# Altium schematic symbol library PW Components.SchLib: 317 symbols (part 1 of 3)
Pins are listed as number, name and electrical type; pins without a type are passive.

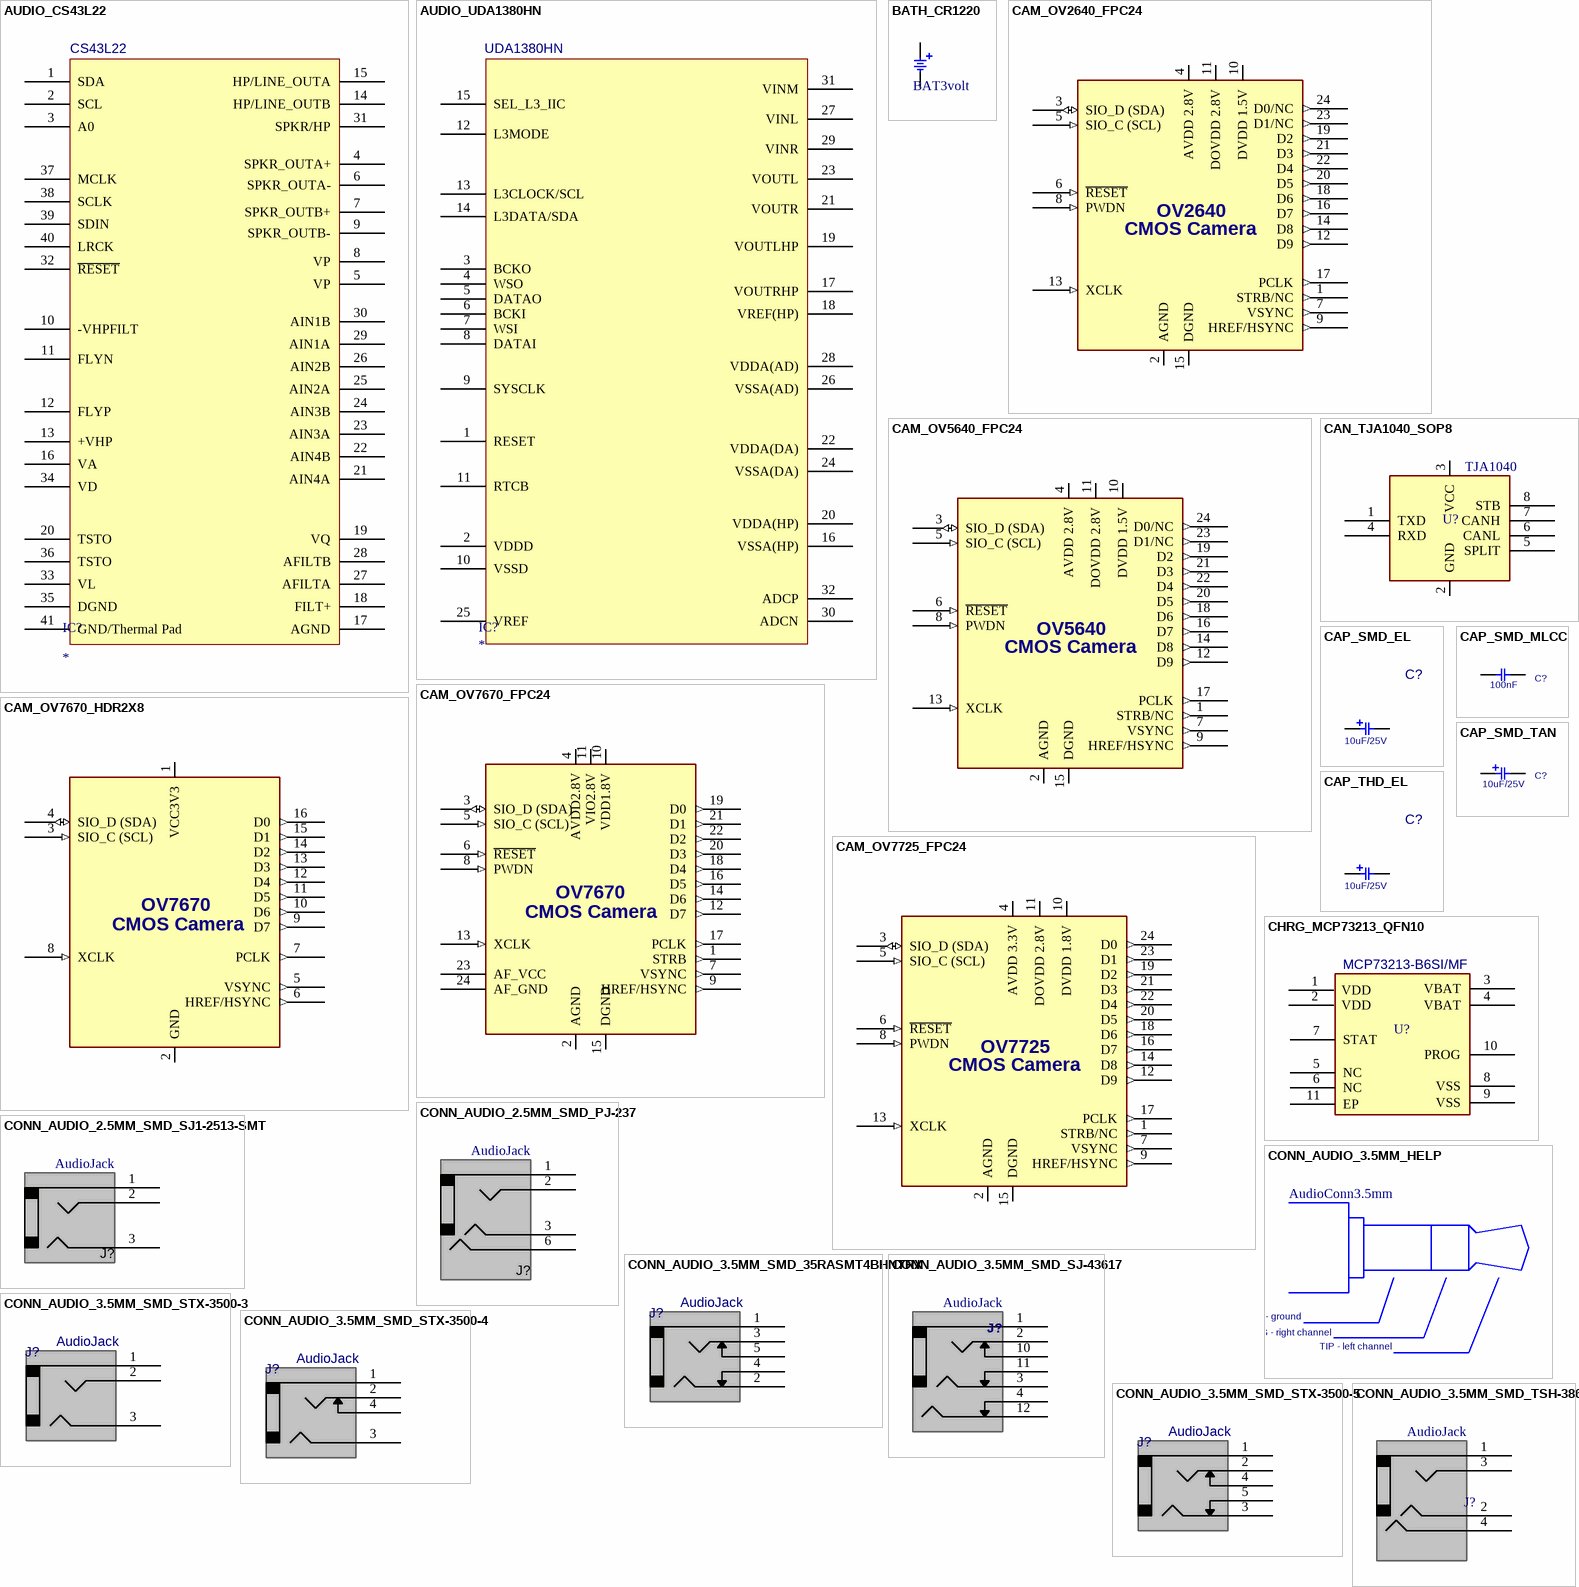
[diagram p0: symbols AUDIO_CS43L22 to CONN_AUDIO_3.5MM_SMD_TSH-3864D]

## AUDIO_CS43L22
designator IC?
Low Power Stereo Digital/Analog Converter (DAC)
footprint QFN40 6x6mm (QFN, 40-Leads, Body 5.00x5.00mm, Pitch 0.40mm, Thermal Pad 3.33x3.33mm, IPC Medium Density)
pins: 1 SDA (power), 2 SCL (power), 3 A0 (power), 4 SPKR_OUTA+ (power), 5 VP (power), 6 SPKR_OUTA- (power), 7 SPKR_OUTB+ (power), 8 VP (power), 9 SPKR_OUTB- (power), 10 -VHPFILT (power), 11 FLYN (power), 12 FLYP (power), 13 +VHP (power), 14 HP/LINE_OUTB (power), 15 HP/LINE_OUTA (power), 16 VA (power), 17 AGND (power), 18 FILT+ (power), 19 VQ (power), 20 TSTO (power), 21 AIN4A (power), 22 AIN4B (power), 23 AIN3A (power), 24 AIN3B (power), 25 AIN2A (power), 26 AIN2B (power), 27 AFILTA (power), 28 AFILTB (power), 29 AIN1A (power), 30 AIN1B (power), 31 SPKR/HP (power), 32 ~{RESET} (power), 33 VL (power), 34 VD (power), 35 DGND (power), 36 TSTO (power), 37 MCLK (power), 38 SCLK (power), 39 SDIN (power), 40 LRCK (power), 41 GND/Thermal Pad (power)
text: CS43L22

## AUDIO_UDA1380HN
designator IC?
Stereo Audio Coder/Decoder
footprint NXP HVQFN-33 5x5mm (QFN, 32-Leads, Body 5.00x5.00mm, Pitch 0.50mm, Thermal Pad 3.75x3.75mm, IPC Medium Density)
pins: 1 RESET, 2 VDDD, 3 BCKO, 4 WSO, 5 DATAO, 6 BCKI, 7 WSI, 8 DATAI, 9 SYSCLK, 10 VSSD, 11 RTCB, 12 L3MODE, 13 L3CLOCK/SCL, 14 L3DATA/SDA, 15 SEL_L3_IIC, 16 VSSA(HP), 17 VOUTRHP, 18 VREF(HP), 19 VOUTLHP, 20 VDDA(HP), 21 VOUTR, 22 VDDA(DA), 23 VOUTL, 24 VSSA(DA), 25 VREF, 26 VSSA(AD), 27 VINL, 28 VDDA(AD), 29 VINR, 30 ADCN, 31 VINM, 32 ADCP
text: UDA1380HN

## BATH_CR1220
designator BT?, comment BAT3volt
BATTERY HOLDER, CR1220; VALUE: BAT3volt; MANF_P#: -
footprint BTH1220 (COIN CELL BATTERY HOLDER 1220 12mm)
pins: 1, 2

## CAM_OV2640_FPC24
designator P?, comment OV2640_FPC24
OV2640 Color CMOS UXGA (1632 x 1232) Concept Camera Module; Value: COLOR VGA Camera
footprint FPC50_24 (FPC, FH12 Series; 24 Position; 0.5mm, Bottom Contact, FH12F-24S-0.5SH)
footprint FPC50_24T (Connector; FH12 Series; 24 Position; 0.5mm, Top Contact, FH12A-24S-0.5SH(55))
footprint FPC50_24V (Connector; FH12 Series; 24 Position; 0.5mm, Vertical, FH12-24S-0.5SV)
pins: 1 STRB/NC (out), 2 AGND (power), 3 SIO_D (SDA) (io), 4 AVDD 2.8V (power), 5 SIO_C (SCL) (in), 6 ~{RESET} (in), 7 VSYNC (out), 8 PWDN (in), 9 HREF/HSYNC (out), 10 DVDD 1.5V (power), 11 DOVDD 2.8V (power), 12 D9 (out), 13 XCLK (in), 14 D8 (out), 15 DGND (power), 16 D7 (out), 17 PCLK (out), 18 D6 (out), 19 D2 (out), 20 D5 (out), 21 D3 (out), 22 D4 (out), 23 D1/NC (out), 24 D0/NC (out)
1 alternate drawing of the same symbol
text: OV2640; CMOS Camera

## CAM_OV5640_FPC24
designator P?, comment OV5640_FPC24
OV5640 Color CMOS QSXGA (2560 x 2048)  Concept Camera Module; Value: COLOR VGA Camera
footprint FPC50_24 (FPC, FH12 Series; 24 Position; 0.5mm, Bottom Contact, FH12F-24S-0.5SH)
footprint FPC50_24T (Connector; FH12 Series; 24 Position; 0.5mm, Top Contact, FH12A-24S-0.5SH(55))
footprint FPC50_24V (Connector; FH12 Series; 24 Position; 0.5mm, Vertical, FH12-24S-0.5SV)
pins: 1 STRB/NC (out), 2 AGND (power), 3 SIO_D (SDA) (io), 4 AVDD 2.8V (power), 5 SIO_C (SCL) (in), 6 ~{RESET} (in), 7 VSYNC (out), 8 PWDN (in), 9 HREF/HSYNC (out), 10 DVDD 1.5V (power), 11 DOVDD 2.8V (power), 12 D9 (out), 13 XCLK (in), 14 D8 (out), 15 DGND (power), 16 D7 (out), 17 PCLK (out), 18 D6 (out), 19 D2 (out), 20 D5 (out), 21 D3 (out), 22 D4 (out), 23 D1/NC (out), 24 D0/NC (out)
1 alternate drawing of the same symbol
text: OV5640; CMOS Camera

## CAM_OV7670_FPC24
designator P?, comment OV7670_FPC24
OV7670 Color CMOS VGA (640 x 480)  Concept Camera Module; Value: COLOR VGA Camera
footprint FPC50_24 (FPC, FH12 Series; 24 Position; 0.5mm, Bottom Contact, FH12F-24S-0.5SH)
footprint FPC50_24T (Connector; FH12 Series; 24 Position; 0.5mm, Top Contact, FH12A-24S-0.5SH(55))
footprint FPC50_24V (Connector; FH12 Series; 24 Position; 0.5mm, Vertical, FH12-24S-0.5SV)
pins: 1 STRB (out), 2 AGND (power), 3 SIO_D (SDA) (io), 4 AVDD2.8V (power), 5 SIO_C (SCL) (in), 6 ~{RESET} (in), 7 VSYNC (out), 8 PWDN (in), 9 HREF/HSYNC (out), 10 VDD1.8V (power), 11 VIO2.8V (power), 12 D7 (out), 13 XCLK (in), 14 D6 (out), 15 DGND (power), 16 D5 (out), 17 PCLK (out), 18 D4 (out), 19 D0 (out), 20 D3 (out), 21 D1 (out), 22 D2 (out), 23 AF_VCC, 24 AF_GND
1 alternate drawing of the same symbol
text: OV7670; CMOS Camera

## CAM_OV7670_HDR2X8
designator U?, comment OV7670_HDR2X8  (value not drawn)
Camera Module, Color CMOS VGA (640 x 480)  Concept; MANF_P#: OV7670_HDR2X8; Value: OV7670_HDR2X8
footprint HDR_F_2X8 (Connector; Header; 8x2 Position)
pins: 1 VCC3V3 (power), 2 GND (power), 3 SIO_C (SCL) (in), 4 SIO_D (SDA) (io), 5 VSYNC (out), 6 HREF/HSYNC (out), 7 PCLK (out), 8 XCLK (in), 9 D7 (out), 10 D6 (out), 11 D5 (out), 12 D4 (out), 13 D3 (out), 14 D2 (out), 15 D1 (out), 16 D0 (out)
1 alternate drawing of the same symbol
text: OV7670; CMOS Camera

## CAM_OV7725_FPC24
designator P?, comment OV7725_FPC24
OV7725 Color CMOS VGA (640 x 480)  Concept Camera Module; Value: COLOR VGA Camera
footprint FPC50_24 (FPC, FH12 Series; 24 Position; 0.5mm, Bottom Contact, FH12F-24S-0.5SH)
footprint FPC50_24T (Connector; FH12 Series; 24 Position; 0.5mm, Top Contact, FH12A-24S-0.5SH(55))
footprint FPC50_24V (Connector; FH12 Series; 24 Position; 0.5mm, Vertical, FH12-24S-0.5SV)
pins: 1 STRB/NC (out), 2 AGND (power), 3 SIO_D (SDA) (io), 4 AVDD 3.3V (power), 5 SIO_C (SCL) (in), 6 ~{RESET} (in), 7 VSYNC (out), 8 PWDN (in), 9 HREF/HSYNC (out), 10 DVDD 1.8V (power), 11 DOVDD 2.8V (power), 12 D9 (out), 13 XCLK (in), 14 D8 (out), 15 DGND (power), 16 D7 (out), 17 PCLK (out), 18 D6 (out), 19 D2 (out), 20 D5 (out), 21 D3 (out), 22 D4 (out), 23 D1 (out), 24 D0 (out)
1 alternate drawing of the same symbol
text: OV7725; CMOS Camera

## CAN_TJA1040_SOP8
designator U?, comment TJA1040
CAN, phy, High speed, 5V (VDD); MANF: NXP; MANF_P#: TJA1040T; PRICE: 4000toman@PAYA; PARAM2: 5V (VDD); PARAM: PARAM; VALUE: TJA1040
footprint SO_8
pins: 1 TXD, 2 GND, 3 VCC, 4 RXD, 5 SPLIT, 6 CANL, 7 CANH, 8 STB

## CAP_SMD_EL
designator C?, comment 10uF/25V
CAP, THD, ELEC; MANF_P#: MANF_PART#; PARAM2: 20%; DESC: DESCRIPTION; DIST#: MOUSER; PARAM: 25V; PRICE: 10= 5$; MANF: MANF; ASSEMBLY: ASSEMBLY; VALUE: 10uF/25V
footprint C_EL_8 (Electrolytic Cap, Size E, Size F, 8.3X10)
footprint C_EL_4 (Electrolytic Cap, D: 4.3mm, Size B)
footprint C_EL_5 (Electrolytic Cap, D: 5.0mm, Size C)
footprint C_EL_6 (Electrolytic Cap, D: 6.3mm L: 7.7mm, Size D)
footprint C_EL_10 (Electrolytic Cap, 10.3x10.3mm)
footprint C_EL_12 (Electrolytic Cap, 12.5x13mm)
pins: 1, 2

## CAP_SMD_MLCC
designator C?, comment 100nF
CAP, SMD, MLCC; PARAM: 50V; DESC: CAP, MLCC, 1nF, 50V, C0G, 10%, 0402; MANF_P#: MANF_PART#; MANF: Murata; PARAM2: C0G, 10%; PRICE: 100= 1$; ASSEMBLY: ASSEMBLY; VALUE: 100nF
footprint C0402 (CHIP Capacitor, 1.0X0.5mm, 0402)
footprint C0603 (CHIP Capacitor, 1.6X0.8mm, 0603)
footprint C0805 (CHIP Capacitor, 2.0X1.3mm, 0805)
footprint C1206 (CHIP Capacitor, 3.2X1.6mm, 1206)
footprint C1210 (CHIP Capacitor, 3.2X2.5mm, 1210, 3225)
footprint C0508 (CHIP Capacitor, 1.3X2.0mm, 0508)
footprint C1020 (CHIP Capacitor, 2.50x5.00mm)
footprint C1808 (CHIP Capacitor, 4.6X2.0mm, 1808, 1806, 4620, 4520)
footprint C1812 (Chip Capacitor, 4.5x3.2mm, 1612, 1812, 4532)
footprint C1825 (Chip Capacitor, 4.5x6.4mm, 1825, 4564)
footprint C2225 (Chip Capacitor, 5.6x6.4mm, 2225, 5664)
footprint C2512 (Chip Capacitor, 6.4x3.2mm, 2512, 6432)
pins: 1, 2

## CAP_SMD_TAN
designator C?, comment 10uF/25V
CAP, SMD, TAN; PARAM: 25V; VALUE: 10uF/25V
footprint C_TN_2012 (CAPACITOR, TAN N, TAN P, TAN R, 0805P, 2X1.3mm)
footprint C_TN_3216 (CAPACITOR, TAN A, 1206P, 3.2x1.6mm)
footprint C_TN_3528 (CAPACITOR, TAN B, TAN H, TAN T, TAN M, 3528P, 1210P, 3.5X2.8mm)
footprint C_TN_6032 (CAPACITOR, TAN C, TAN F, TAN U, TAN L, 6032P, 6.0X3.2mm)
footprint C_TN_7343 (CAPACITOR, TAN D, TAN E, TAN Y, TAN X, 7343P, 7.3X4.3mm)
footprint C_TN_7361 (CAPACITOR, TAN V, 2924, 7361, 7.3X6.1mm)
pins: 1, 2

## CAP_THD_EL
designator C?, comment 10uF/25V
CAP, THD, ELEC; MANF_P#: MANF_PART#; PARAM2: 20%; DESC: DESCRIPTION; DIST#: MOUSER; PARAM: 25V; PRICE: 10= 5$; MANF: MANF; ASSEMBLY: ASSEMBLY; VALUE: 10uF/25V
footprint C_EL_8X12 (Cap Elec, D8.0X12.0H pitch: 3.5mm, RB.14/.26, RB.15/.32)
footprint C_EL_4X7 (Cap Elec, D4.0X7.0H pitch: 1.5mm)
footprint C_EL_5X7 (Cap Elec, D5.0X7.0H pitch: 2mm)
footprint C_EL_5X11 (Cap Elec, D5.0X11.0H pitch: 2mm)
footprint C_EL_6X11 (Cap Elec, D6.3X11.0H pitch: 2.5mm)
footprint C_EL_8X12 (Cap Elec, D8.0X12.0H pitch: 3.5mm, RB.14/.26, RB.15/.32)
footprint C_EL_8X12R (Cap Elec, D8.0X12.0H pitch: 3.5mm, RIGHT ANGLE)
footprint C_EL_10X20 (Cap Elec, D10.0X20.0H pitch: 5.0mm, RB.2/.4)
footprint C_EL_12X25 (Cap Elec, D12.0X25.0H pitch: 5.0mm, RB.2/.5)
footprint C_EL_16X25 (Cap Elec, D16.0X25.0H pitch: 7.6mm, RB.3/.6)
footprint C_EL_18X35 (Cap Elec, D18.0X35.0H pitch: 7.6mm, RB.3/.7)
footprint C_EL_20X35 (Cap Elec, D20.0X35.0H pitch: 10.0mm, RB.4/.8)
footprint C_EL_25X40 (Cap Elec, D25.0X40.0H pitch: 12.8mm, RB.5/1)
footprint C_EL_30X50 (Cap Elec, D30.0X50.0H pitch: 10.0mm)
footprint C_EL_35X30 (Cap Elec, D35.0X30.0H pitch: 10.0mm, 470uF/400V, RB.44/1.3)
footprint C_EL_10X12 (Footprint not found)
footprint C_EL_6X12_R (Footprint not found)
pins: 1, 2

## CHRG_MCP73213_QFN10
designator U?, comment MCP73213-B6SI/MF
Dual-Cell Li-Ion / Li-Polymer Battery Charge Management Controller with OVP, 13V, 10-Pin DFN, Industrial Temperature; MANF: MICROCHIP; MANF_P#: MCP73213-B6SI/MF; Value: MCP73213-B6SI/MF
footprint SON50_10T_3X3 (DRC SON(TI), 10 TDFN (MAXIM), 3X3mm, Pitch: 0.5mm with thermal pad)
pins: 1 VDD, 2 VDD, 3 VBAT, 4 VBAT, 5 NC, 6 NC, 7 STAT, 8 VSS, 9 VSS, 10 PROG, 11 EP

## CONN_AUDIO_2.5MM_SMD_PJ-237
designator J?, comment AudioJack
Jack, Audio, Stereo, 2.5mm, RA, SMD; MANF_P#: PJ-237; MANF: -; VALUE: AudioJack
footprint JCKAS_PJ237 (Jack, Audio, Stereo, 3.5mm, RA, SMD, PJ-237)
pins: 1 SLEEVE, 2 TIP, 3 RING, 6 RING2

## CONN_AUDIO_2.5MM_SMD_SJ1-2513-SMT
designator J?, comment AudioJack
Jack, Audio, Stereo, 2.5mm, RA, SMD; MANF: CUI Inc; MANF_P#: SJ1-2513-SMT; VALUE: AudioJack
footprint JCKAS_SJ2513 (CUI SJ1-2513-SMT 2.5mm stereo jack)
pins: 1 SLEEVE, 2 TIP, 3 RING

## CONN_AUDIO_3.5MM_HELP
designator J?, comment AudioConn3.5mm  (graphical)
Conn, Audio, 3.5mm; VALUE: AudioConn3.5mm
footprint CONNA (Conn, Audio, Stereo, 3.5mm)
text: SLEEVE - ground; RING - right channel; TIP - left channel

## CONN_AUDIO_3.5MM_SMD_35RASMT4BHNTRX
designator J?, comment AudioJack
Jack, Audio, Stereo, 3.5mm, RA, SMD; MANF: Switchcraft; DESC: DESCRIPTION; DIST#: MOUSER; MANF_P#: 35RASMT4BHNTRX; ASSEMBLY: ASSEMBLY; PARAM: PARAM; PRICE: 1.6$; VALUE: AudioJack
footprint JCKAS_35RASMT4 (Audio Jack, 35RASMT4BHNTRX)
pins: 1 SHIELD, 2 RING, 3 TIP, 4 RINGSW, 5 TIPB

## CONN_AUDIO_3.5MM_SMD_SJ-43617
designator J?, comment AudioJack
Jack, Audio, Stereo, 3.5mm, RA, THD; MANF: CUI; MANF_P#: SJ-43617-SMT; PRICE: 1.4$; VALUE: AudioJack
footprint JCKAS_SJ43617 (Jack, Audio, Stereo, 3.5mm, SJ-43617-SMT)
pins: 1 SLEEVE, 2 TIP, 3 RING1, 4 RING2SW, 10 TIPSW, 11 RING1SW, 12 RING2

## CONN_AUDIO_3.5MM_SMD_STX-3500-3
designator J?, comment AudioJack
Jack, Audio, Stereo, 3.5mm, RA, SMD; MANF: Kycon; DESC: DESCRIPTION; DIST#: MOUSER; MANF_P#: STX-3500-3NTR; ASSEMBLY: ASSEMBLY; PARAM: PARAM; PRICE: 1.6$; VALUE: AudioJack
footprint JCKAS_STX3500 (Jack, Audio, Stereo, 3.5mm, RA, SMD)
pins: 1 SHIELD, 2 TIP, 3 RING

## CONN_AUDIO_3.5MM_SMD_STX-3500-4
designator J?, comment AudioJack
Jack, Audio, Stereo, 3.5mm, RA, SMD; MANF: Kycon; DESC: DESCRIPTION; DIST#: MOUSER; MANF_P#: STX-3500-4NTR; ASSEMBLY: ASSEMBLY; PARAM: PARAM; PRICE: 1.6$; VALUE: AudioJack
footprint JCKAS_STX3500 (Jack, Audio, Stereo, 3.5mm, RA, SMD)
pins: 1 SHIELD, 2 TIP, 3 RING, 4 TIPSW

## CONN_AUDIO_3.5MM_SMD_STX-3500-5
designator J?, comment AudioJack
Jack, Audio, Stereo, 3.5mm, RA, SMD; MANF: Kycon; DESC: DESCRIPTION; DIST#: MOUSER; MANF_P#: STX-3500-5NTR; ASSEMBLY: ASSEMBLY; PARAM: PARAM; PRICE: 1.6$; VALUE: AudioJack
footprint JCKAS_STX3500 (Jack, Audio, Stereo, 3.5mm, RA, SMD)
pins: 1 SLEEVE, 2 TIP, 3 RING, 4 TIPSW, 5 RINGSW

## CONN_AUDIO_3.5MM_SMD_TSH-3864D
designator J?, comment AudioJack
Jack, Audio, Stereo, 3.5mm, RA, SMD; MANF: Champway; MANF_P#: TSH-3864D; VALUE: AudioJack
footprint JCKAS_PJ386 (Jack, Audio, Stereo, 3.5mm, RA, SMD)
pins: 1 SLEEVE (power) "Sleeve (Ground)", 2 RING_L "Tip/Left Channel/(+)", 3 TIP_R "Ring/Right Channel/(-)", 4 SN-NO "Sleeve Normal (Break Contact)"

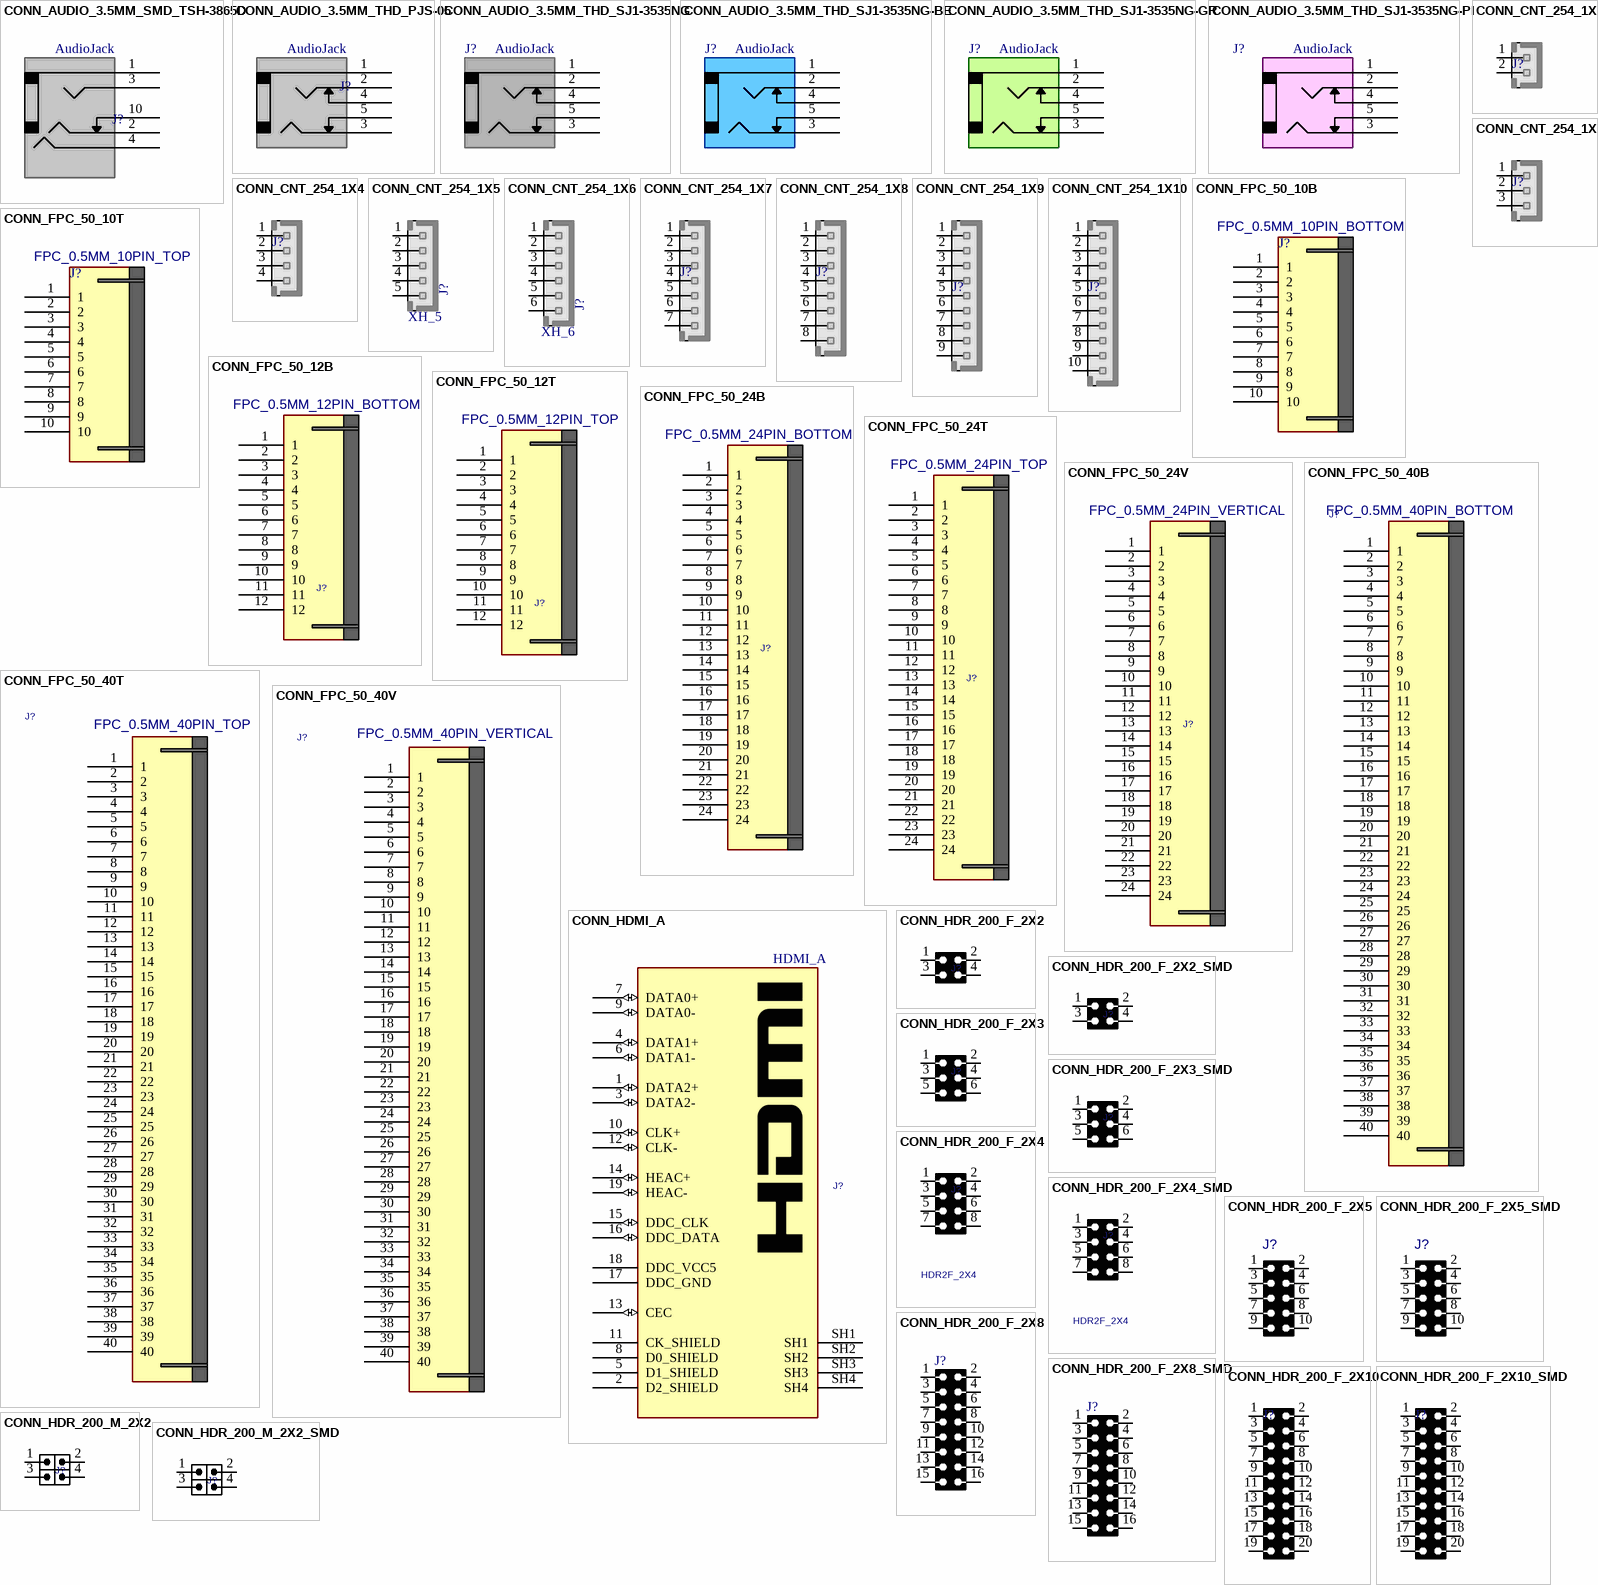
[diagram p1: symbols CONN_AUDIO_3.5MM_SMD_TSH-3865D to CONN_HDR_200_M_2X2_SMD]

## CONN_AUDIO_3.5MM_SMD_TSH-3865D
designator J?, comment AudioJack
Jack, Audio, Stereo, 3.5mm, RA, SMD; MANF: Champway; MANF_P#: TSH-3865D; VALUE: AudioJack
footprint JCKAS_PJ386 (Jack, Audio, Stereo, 3.5mm, RA, SMD)
pins: 1 S (power) "Sleeve (Ground)", 2 RING_L "Tip/Left Channel/(+)", 3 TIP_R "Ring/Right Channel/(-)", 4 SN-NO "Sleeve Normal (Break Contact)", 10 SL-NC

## CONN_AUDIO_3.5MM_THD_PJS-05
designator J?, comment AudioJack
Jack, Audio, Stereo, 3.5mm, RA, THD; MANF: AUK; MANF_P#: PJS-05-LB-H; VALUE: AudioJack
footprint JCKAT_PJS05LBH (Jack, Audio, Stereo, 3.5mm, RA, THD, PJS-05-LB-H)
pins: 1 COM, 2 TIP_L, 3 RING_R, 4 TIPSW, 5 RINGSW

## CONN_AUDIO_3.5MM_THD_SJ1-3535NG
designator J?, comment AudioJack
Jack, Audio, Stereo, 3.5mm, RA, THD, Black; MANF: CUI Inc; MANF_P#: SJ1-3535NG; PARAM2: 16VDC, 300mA; PARAM: Black Color, Brass Contact, tin plating; PRICE: 1=0.89, 10=0.686, 100=0.5235, 500=0.41878, 1000=0.37226, 2500=0.30944 (GBP); VALUE: AudioJack
footprint JCKAT_SJ3535 (Jack, Audio, Stereo, 3.5mm, RA, THD, SJ1-3535NG BLACK)
pins: 1 sleeve, 2 TIP, 3 RING, 4 TIPSW, 5 RINGSW

## CONN_AUDIO_3.5MM_THD_SJ1-3535NG-BE
designator J?, comment AudioJack
Jack, Audio, Stereo, 3.5mm, RA, THD, Blue; MANF: CUI Inc; MANF_P#: SJ1-3535NG-BE; PARAM2: 16VDC, 300mA; PARAM: Blue Color, Brass Contact, tin plating; PRICE: 1=0.97, 10=0.755, 100=0.5757, 500=0.46054, 1000=0.40937, 2500=0.34029 (GBP); VALUE: AudioJack
footprint JCKAT_SJ3535BLU (Jack, Audio, Stereo, 3.5mm, RA, THD, SJ1-3535NG-BE)
pins: 1 sleeve, 2 TIP, 3 RING, 4 TIPSW, 5 RINGSW

## CONN_AUDIO_3.5MM_THD_SJ1-3535NG-GR
designator J?, comment AudioJack
Jack, Audio, Stereo, 3.5mm, RA, THD, Green; MANF: CUI Inc; MANF_P#: SJ1-3535NG-GR; PARAM2: 16VDC, 300mA; PARAM: Green Color, Brass Contact, tin plating; PRICE: 1=0.97, 10=0.755, 100=0.5757, 500=0.46054, 1000=0.40937, 2500=0.34029 (GBP); VALUE: AudioJack
footprint JCKAT_SJ3535GRN (Jack, Audio, Stereo, 3.5mm, RA, THD, SJ1-3535NG-GR)
pins: 1 sleeve, 2 TIP, 3 RING, 4 TIPSW, 5 RINGSW

## CONN_AUDIO_3.5MM_THD_SJ1-3535NG-PI
designator J?, comment AudioJack
Jack, Audio, Stereo, 3.5mm, RA, THD, Pink; MANF: CUI Inc; MANF_P#: SJ1-3535NG-PI; PARAM2: 16VDC, 300mA; PARAM: Pink Color, Brass Contact, tin plating; PRICE: 1=1.38, 10=1.074, 100=0.819, 500=0.6552, 1000=0.5824, 2500=0.48412 (USD); VALUE: AudioJack
footprint JCKAT_SJ3535PNK (Jack, Audio, Stereo, 3.5mm, RA, THD, SJ1-3535NG-PI)
pins: 1 sleeve, 2 TIP, 3 RING, 4 TIPSW, 5 RINGSW

## CONN_CNT_254_1X2
designator J?, comment HHDR_2  (value not drawn)
CONN, CNT, pitch: 2.54mm, 2POS; VALUE: HHDR_2
footprint XH_2 (PW10-xx-M, JST-BxB-XH-A pitch: 2.5mm)
signal-integrity model Connector
pins: 1, 2

## CONN_CNT_254_1X3
designator J?, comment HHDR_3  (value not drawn)
CONN, CNT, pitch: 2.54mm, 3POS; VALUE: HHDR_3
footprint XH_3 (PW10-xx-M, JST-BxB-XH-A pitch: 2.5mm)
signal-integrity model Connector
pins: 1, 2, 3

## CONN_CNT_254_1X4
designator J?, comment HHDR_4  (value not drawn)
CONN, CNT, pitch: 2.54mm, 4POS; VALUE: HHDR_4
footprint XH_4 (PW10-xx-M, JST-BxB-XH-A pitch: 2.5mm)
signal-integrity model Connector
pins: 1, 2, 3, 4

## CONN_CNT_254_1X5
designator J?, comment XH_5
CONN, CNT, pitch: 2.54mm, 5POS; MANF_P#: JST-B5B-XHA; MANF: JST; VALUE: XH_5
signal-integrity model Connector
footprint XH_5 (PW10-xx-M, JST-BxB-XH-A pitch: 2.5mm)
pins: 1, 2, 3, 4, 5

## CONN_CNT_254_1X6
designator J?, comment XH_6
CONN, CNT, pitch: 2.54mm, 6POS; MANF_P#: JST-S6B-XHA; MANF: JST; VALUE: XH_6
signal-integrity model Connector
footprint XH_6 (PW10-xx-M, JST-BxB-XH-A pitch: 2.5mm)
pins: 1, 2, 3, 4, 5, 6

## CONN_CNT_254_1X7
designator J?, comment HHDR_7  (value not drawn)
CONN, CNT, pitch: 2.54mm, 7POS; VALUE: HHDR_7
footprint XH_7 (PW10-xx-M, JST-BxB-XH-A pitch: 2.5mm)
signal-integrity model Connector
pins: 1, 2, 3, 4, 5, 6, 7

## CONN_CNT_254_1X8
designator J?, comment HHDR_8  (value not drawn)
CONN, CNT, pitch: 2.54mm, 8POS; VALUE: HHDR_8
footprint XH_8 (PW10-xx-M, JST-BxB-XH-A pitch: 2.5mm)
signal-integrity model Connector
pins: 1, 2, 3, 4, 5, 6, 7, 8

## CONN_CNT_254_1X9
designator J?, comment HHDR_9  (value not drawn)
CONN, CNT, pitch: 2.54mm, 9POS; VALUE: HHDR_9
footprint XH_9 (PW10-xx-M, JST-BxB-XH-A pitch: 2.5mm)
signal-integrity model Connector
pins: 1, 2, 3, 4, 5, 6, 7, 8, 9

## CONN_CNT_254_1X10
designator J?, comment HHDR_10  (value not drawn)
CONN, CNT, pitch: 2.54mm, 10POS; VALUE: HHDR_10
footprint XH_10 (PW10-xx-M, JST-BxB-XH-A pitch: 2.5mm)
signal-integrity model Connector
footprint HDR1X10_2.54_180 Edge
pins: 1, 2, 3, 4, 5, 6, 7, 8, 9, 10

## CONN_FPC_50_10B
designator J?, comment FPC_0.5MM_10PIN_BOTTOM
CONN, FPC, 0.50mm pitch, 10 pin, RightAngle, Bottom Contact; DESC: LCD Touch; MANF: Wurth Elektronik; MANF_P#: 687110149022; VALUE: FPC_0.5MM_10PIN_BOTTOM
footprint FPC50_10 (FPC, 0.50mm, SMT,RA Bot. Contact, WE 687110149022)
pins: 1, 2, 3, 4, 5, 6, 7, 8, 9, 10

## CONN_FPC_50_10T
designator J?, comment FPC_0.5MM_10PIN_TOP
CONN, FPC, 0.50mm pitch, 10 pin, RightAngle, Top Contact; DESC: LCD Touch; MANF: Wurth Elektronik; MANF_P#: 687110149022; VALUE: FPC_0.5MM_10PIN_TOP
footprint FPC50_10 (FPC, 0.50mm, SMT,RA Bot. Contact, WE 687110149022)
pins: 1, 2, 3, 4, 5, 6, 7, 8, 9, 10

## CONN_FPC_50_12B
designator J?, comment FPC_0.5MM_12PIN_BOTTOM
CONN, FPC, 0.50mm pitch, 12 pin, RightAngle, Bottom Contact; MANF: Hirose; MANF_P#: FH12-20S-0.5SH; PRICE: 2$; VALUE: FPC_0.5MM_12PIN_BOTTOM
footprint FPC50_12 (FH12-12S-0.5SH FFC-FPC pitch: 0.5mm)
pins: 1, 2, 3, 4, 5, 6, 7, 8, 9, 10, 11, 12

## CONN_FPC_50_12T
designator J?, comment FPC_0.5MM_12PIN_TOP
CONN, FPC, 0.50mm pitch, 12 pin, RightAngle, Top Contact; MANF: Hirose; MANF_P#: FH12-20S-0.5SH; PRICE: 2$; VALUE: FPC_0.5MM_12PIN_TOP
footprint FPC50_12 (FH12-12S-0.5SH FFC-FPC pitch: 0.5mm)
pins: 1, 2, 3, 4, 5, 6, 7, 8, 9, 10, 11, 12

## CONN_FPC_50_24B
designator J?, comment FPC_0.5MM_24PIN_BOTTOM
CONN, FPC, 0.50mm pitch, 24 pin, RightAngle, Bottom Contact; DESC: FH12F-24S-0.5SH(55); MANF: MOLEX, Hirose, FCI; MANF_P#: 52437-2433, FH12-24S-0.5SH(55), SFV24R-1ST; VALUE: FPC_0.5MM_24PIN_BOTTOM
footprint FPC50_24 (FPC, FH12 Series; 24 Position; 0.5mm, Bottom Contact, FH12F-24S-0.5SH)
pins: 1, 2, 3, 4, 5, 6, 7, 8, 9, 10, 11, 12, 13, 14, 15, 16, 17, 18, 19, 20, 21, 22, 23, 24

## CONN_FPC_50_24T
designator J?, comment FPC_0.5MM_24PIN_TOP
CONN, FPC, 0.50mm pitch, 24 pin, RightAngle, Top Contact; MANF: Hirose; MANF_P#: FH12A-24S-0.5SH(55); VALUE: FPC_0.5MM_24PIN_TOP
footprint FPC50_24T (Connector; FH12 Series; 24 Position; 0.5mm, Top Contact, FH12A-24S-0.5SH(55))
pins: 1, 2, 3, 4, 5, 6, 7, 8, 9, 10, 11, 12, 13, 14, 15, 16, 17, 18, 19, 20, 21, 22, 23, 24

## CONN_FPC_50_24V
designator J?, comment FPC_0.5MM_24PIN_VERTICAL
CONN, FPC, 0.50mm pitch, 24 pin, Vertical; MANF: Hirose; MANF_P#: FH12-24S-0.5SV; VALUE: FPC_0.5MM_24PIN_VERTICAL
footprint FPC50_24V (Connector; FH12 Series; 24 Position; 0.5mm, Vertical, FH12-24S-0.5SV)
pins: 1, 2, 3, 4, 5, 6, 7, 8, 9, 10, 11, 12, 13, 14, 15, 16, 17, 18, 19, 20, 21, 22, 23, 24

## CONN_FPC_50_40B
designator J?, comment FPC_0.5MM_40PIN_BOTTOM
CONN, FPC, 0.50mm pitch, 40 pin, RightAngle, Bottom Contact; DESC: FH12F-40S-0.5SH, FH12S-40S-0.5SH; MANF: MOLEX, Hirose; MANF_P#: 54132‐4062, FH12-40S-0.5SH; VALUE: FPC_0.5MM_40PIN_BOTTOM
footprint FPC50_40 (FPC, pitch: 0.5mm, FH12-40S-0.5SH, molex 54132-4062)
pins: 1, 2, 3, 4, 5, 6, 7, 8, 9, 10, 11, 12, 13, 14, 15, 16, 17, 18, 19, 20, 21, 22, 23, 24, 25, 26, 27, 28, 29, 30, 31, 32, 33, 34, 35, 36, 37, 38, 39, 40

## CONN_FPC_50_40T
designator J?
CONN, FPC, 0.50mm pitch, 40 pin, RightAngle, Top Contact; MANF: Hirose; MANF_P#: FH12A-40S-0.5SH
footprint FPC50_40T (FPC, FH12 Series; 40 Position; 0.5mm, Top Contact)
pins: 1, 2, 3, 4, 5, 6, 7, 8, 9, 10, 11, 12, 13, 14, 15, 16, 17, 18, 19, 20, 21, 22, 23, 24, 25, 26, 27, 28, 29, 30, 31, 32, 33, 34, 35, 36, 37, 38, 39, 40
text: FPC_0.5MM_40PIN_TOP

## CONN_FPC_50_40V
designator J?
CONN, FPC, 0.50mm pitch, 40 pin, Vertical; MANF: Hirose; MANF_P#: FH12-40S-0.5SVA
footprint FPC50_40V (FPC, FH12 Series; 40 Position; 0.5mm,Vertical, FH12-40S-0.5SVA)
pins: 1, 2, 3, 4, 5, 6, 7, 8, 9, 10, 11, 12, 13, 14, 15, 16, 17, 18, 19, 20, 21, 22, 23, 24, 25, 26, 27, 28, 29, 30, 31, 32, 33, 34, 35, 36, 37, 38, 39, 40
text: FPC_0.5MM_40PIN_VERTICAL

## CONN_HDMI_A
designator J?, comment HDMI_A
CONN, HDMI, Receptacle, TYPE A, 19P, RIGH-ANGLE; MANF: Molex, WURTH; MANF_P#: 47151-0001, 500254-1927, 685119134923; PARAM: Receptacle, 19P, RIGH-ANGLE; PRICE: 2.57$; VALUE: HDMI_A
footprint HDMI_A (CONN, HDMI, TYPE A, 19PIN)
pins: 1 DATA2+ (io), 2 D2_SHIELD, 3 DATA2- (io), 4 DATA1+ (io), 5 D1_SHIELD, 6 DATA1- (io), 7 DATA0+ (io), 8 D0_SHIELD, 9 DATA0- (io), 10 CLK+ (io), 11 CK_SHIELD, 12 CLK- (io), 13 CEC (io), 14 HEAC+ (io), 15 DDC_CLK (io), 16 DDC_DATA (io), 17 DDC_GND, 18 DDC_VCC5, 19 HEAC- (io), SH1, SH2, SH3, SH4

## CONN_HDR_200_F_2X2
designator J?, comment HDR2F_2X2  (value not drawn)
CONN, HEADER, Female, pitch: 2mm, 4POS; MANF_P#: MANF_PART#; MANF: MANF; VALUE: HDR2F_2X2
footprint HDR2_F_2X2 (Connector; Header; 2mm Pitch)
pins: 1, 2, 3, 4

## CONN_HDR_200_F_2X2_SMD
designator J?, comment HDR2F_2X2  (value not drawn)
CONN, HEADER, Female, pitch: 2mm, 4POS, SMD; MANF_P#: MANF_PART#; MANF: MANF; VALUE: HDR2F_2X2
footprint HDR2S_F_2X2 (Header 2.0mm pitch)
pins: 1, 2, 3, 4

## CONN_HDR_200_F_2X3
designator J?, comment HDR2F_2X3  (value not drawn)
CONN, HEADER, Female, pitch: 2mm, 6POS; MANF_P#: MANF_PART#; MANF: MANF; VALUE: HDR2F_2X3
footprint HDR2_F_2X3 (Connector; Header; 2mm Pitch)
pins: 1, 2, 3, 4, 5, 6

## CONN_HDR_200_F_2X3_SMD
designator J?, comment HDR2F_2X3  (value not drawn)
CONN, HEADER, Female, pitch: 2mm, 6POS, SMD; MANF_P#: MANF_PART#; MANF: MANF; VALUE: HDR2F_2X3
footprint HDR2S_F_2X3 (Header 2.0mm pitch)
pins: 1, 2, 3, 4, 5, 6

## CONN_HDR_200_F_2X4
designator J?, comment HDR2F_2X4
CONN, HEADER, Female, pitch: 2mm, 8POS; MANF_P#: MANF_PART#; MANF: MANF; VALUE: HDR2F_2X4
footprint HDR2_F_2X4 (Connector; Header; 2mm Pitch)
pins: 1, 2, 3, 4, 5, 6, 7, 8

## CONN_HDR_200_F_2X4_SMD
designator J?, comment HDR2F_2X4
CONN, HEADER, Female, pitch: 2mm, 8POS, SMD; MANF_P#: MANF_PART#; MANF: MANF; VALUE: HDR2F_2X4
footprint HDR2S_F_2X4 (Header 2.0mm pitch)
pins: 1, 2, 3, 4, 5, 6, 7, 8

## CONN_HDR_200_F_2X5
designator J?, comment HDR2F_2X5  (value not drawn)
CONN, HEADER, Female, pitch: 2mm, 10POS; VALUE: HDR2F_2X5
footprint HDR2_F_2X5 (Connector; Header; 2mm Pitch)
pins: 1, 2, 3, 4, 5, 6, 7, 8, 9, 10

## CONN_HDR_200_F_2X5_SMD
designator J?, comment HDR2F_2X5  (value not drawn)
CONN, HEADER, Female, pitch: 2mm, 10POS, SMD; VALUE: HDR2F_2X5
footprint HDR2S_F_2X5 (Header 2.0mm pitch)
pins: 1, 2, 3, 4, 5, 6, 7, 8, 9, 10

## CONN_HDR_200_F_2X8
designator J?, comment HDR2F_2X8  (value not drawn)
CONN, HEADER, Female, pitch: 2mm, 16POS; VALUE: HDR2F_2X8
footprint HDR2_F_2X8 (Connector; Header; 2mm Pitch)
pins: 1, 2, 3, 4, 5, 6, 7, 8, 9, 10, 11, 12, 13, 14, 15, 16

## CONN_HDR_200_F_2X8_SMD
designator J?, comment HDR2F_2X8  (value not drawn)
CONN, HEADER, Female, pitch: 2mm, 16POS, SMD; VALUE: HDR2F_2X8
footprint HDR2S_F_2X8 (Header 2.0mm pitch)
pins: 1, 2, 3, 4, 5, 6, 7, 8, 9, 10, 11, 12, 13, 14, 15, 16

## CONN_HDR_200_F_2X10
designator J?, comment HDR2F_2X10  (value not drawn)
CONN, HEADER, Female, pitch: 2mm, 20POS; VALUE: HDR2F_2X10
footprint HDR2_F_2X10 (Connector; Header; 2mm Pitch)
pins: 1, 2, 3, 4, 5, 6, 7, 8, 9, 10, 11, 12, 13, 14, 15, 16, 17, 18, 19, 20

## CONN_HDR_200_F_2X10_SMD
designator J?, comment HDR2F_2X10  (value not drawn)
CONN, HEADER, Female, pitch: 2mm, 20POS, SMD; VALUE: HDR2F_2X10
footprint HDR2S_F_2X10 (Header 2.0mm pitch)
pins: 1, 2, 3, 4, 5, 6, 7, 8, 9, 10, 11, 12, 13, 14, 15, 16, 17, 18, 19, 20

## CONN_HDR_200_M_2X2
designator J?, comment HDR2M_2X2  (value not drawn)
CONN, HEADER, Male, pitch: 2mm, 4POS; MANF_P#: MANF_PART#; MANF: MANF; VALUE: HDR2M_2X2
footprint HDR2_M_2X2 (Connector; Header; 2mm Pitch)
pins: 1, 2, 3, 4

## CONN_HDR_200_M_2X2_SMD
designator J?, comment HDR2M_2X2  (value not drawn)
CONN, HEADER, Male, pitch: 2mm, 4POS, SMD; MANF_P#: MANF_PART#; MANF: MANF; VALUE: HDR2M_2X2
footprint HDR2S_M_2X2 (Header 2.0mm pitch)
pins: 1, 2, 3, 4

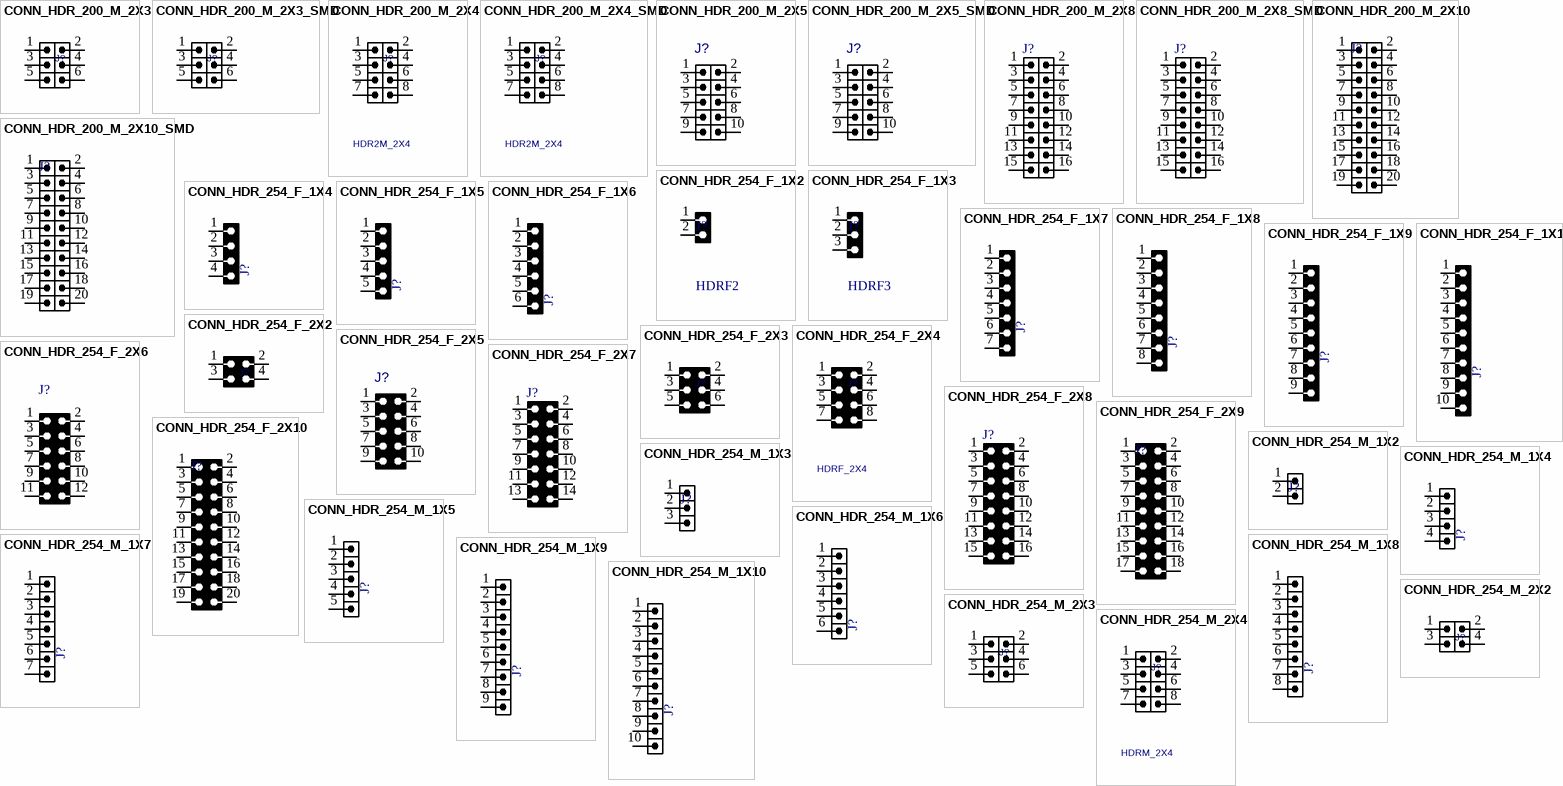
[diagram p2: symbols CONN_HDR_200_M_2X3 to CONN_HDR_254_M_2X4]

## CONN_HDR_200_M_2X3
designator J?, comment HDR2M_2X3  (value not drawn)
CONN, HEADER, Male, pitch: 2mm, 6POS; MANF_P#: MANF_PART#; MANF: MANF; VALUE: HDR2M_2X3
footprint HDR2_M_2X3 (Connector; Header; 2mm Pitch)
pins: 1, 2, 3, 4, 5, 6

## CONN_HDR_200_M_2X3_SMD
designator J?, comment HDR2M_2X3  (value not drawn)
CONN, HEADER, Male, pitch: 2mm, 6POS, SMD; MANF_P#: MANF_PART#; MANF: MANF; VALUE: HDR2M_2X3
footprint HDR2S_M_2X3 (Header 2.0mm pitch)
pins: 1, 2, 3, 4, 5, 6

## CONN_HDR_200_M_2X4
designator J?, comment HDR2M_2X4
CONN, HEADER, Male, pitch: 2mm, 8POS; MANF_P#: MANF_PART#; MANF: MANF; VALUE: HDR2M_2X4
footprint HDR2_M_2X4 (Connector; Header; 2mm Pitch)
pins: 1, 2, 3, 4, 5, 6, 7, 8

## CONN_HDR_200_M_2X4_SMD
designator J?, comment HDR2M_2X4
CONN, HEADER, Male, pitch: 2mm, 8POS, SMD; MANF_P#: MANF_PART#; MANF: MANF; VALUE: HDR2M_2X4
footprint HDR2S_M_2X4 (Header 2.0mm pitch)
pins: 1, 2, 3, 4, 5, 6, 7, 8

## CONN_HDR_200_M_2X5
designator J?, comment HDR2M_2X5  (value not drawn)
CONN, HEADER, Male, pitch: 2mm, 10POS; VALUE: HDR2M_2X5
footprint HDR2_M_2X5 (Connector; Header; 2mm Pitch)
pins: 1, 2, 3, 4, 5, 6, 7, 8, 9, 10

## CONN_HDR_200_M_2X5_SMD
designator J?, comment HDR2M_2X5  (value not drawn)
CONN, HEADER, Male, pitch: 2mm, 10POS, SMD; VALUE: HDR2M_2X5
footprint HDR2S_M_2X5 (Header 2.0mm pitch)
pins: 1, 2, 3, 4, 5, 6, 7, 8, 9, 10

## CONN_HDR_200_M_2X8
designator J?, comment HDR2M_2X8  (value not drawn)
CONN, HEADER, Male, pitch: 2mm, 16POS; VALUE: HDR2M_2X8
footprint HDR2_M_2X8 (Connector; Header; 2mm Pitch)
pins: 1, 2, 3, 4, 5, 6, 7, 8, 9, 10, 11, 12, 13, 14, 15, 16

## CONN_HDR_200_M_2X8_SMD
designator J?, comment HDR2M_2X8  (value not drawn)
CONN, HEADER, Male, pitch: 2mm, 16POS, SMD; VALUE: HDR2M_2X8
footprint HDR2S_M_2X8 (Header 2.0mm pitch)
pins: 1, 2, 3, 4, 5, 6, 7, 8, 9, 10, 11, 12, 13, 14, 15, 16

## CONN_HDR_200_M_2X10
designator J?, comment HDR2M_2X10  (value not drawn)
CONN, HEADER, Male, pitch: 2mm, 20POS; VALUE: HDR2M_2X10
footprint HDR2_M_2X10 (Connector; Header; 2mm Pitch)
pins: 1, 2, 3, 4, 5, 6, 7, 8, 9, 10, 11, 12, 13, 14, 15, 16, 17, 18, 19, 20

## CONN_HDR_200_M_2X10_SMD
designator J?, comment HDR2M_2X10  (value not drawn)
CONN, HEADER, Male, pitch: 2mm, 20POS, SMD; VALUE: HDR2M_2X10
footprint HDR2S_M_2X10 (Header 2.0mm pitch)
pins: 1, 2, 3, 4, 5, 6, 7, 8, 9, 10, 11, 12, 13, 14, 15, 16, 17, 18, 19, 20

## CONN_HDR_254_F_1X2
designator J?, comment HDRF2
CONN, HEADER, Female, pitch: 2.54mm, 2POS; VALUE: HDRF2
footprint HDR_F_1X2 (HEADER FEMALE pitch: 2.54mm)
pins: 1, 2

## CONN_HDR_254_F_1X3
designator J?, comment HDRF3
CONN, HEADER, Female, pitch: 2.54mm, 3POS; VALUE: HDRF3
footprint HDR_F_1X3 (HEADER FEMALE pitch: 2.54mm)
pins: 1, 2, 3

## CONN_HDR_254_F_1X4
designator J?, comment HDRF4  (value not drawn)
CONN, HEADER, Female, pitch: 2.54mm, 4POS; VALUE: HDRF4
footprint HDR_F_1X4 (HEADER FEMALE pitch: 2.54mm)
pins: 1, 2, 3, 4

## CONN_HDR_254_F_1X5
designator J?, comment HDRF5  (value not drawn)
CONN, HEADER, Female, pitch: 2.54mm, 5POS; VALUE: HDRF5
footprint HDR_F_1X5 (HEADER FEMALE pitch: 2.54mm)
pins: 1, 2, 3, 4, 5

## CONN_HDR_254_F_1X6
designator J?, comment HDRF6  (value not drawn)
CONN, HEADER, Female, pitch: 2.54mm, 6POS; VALUE: HDRF6
footprint HDR_F_1X6 (HEADER FEMALE pitch: 2.54mm)
pins: 1, 2, 3, 4, 5, 6

## CONN_HDR_254_F_1X7
designator J?, comment HDRF7  (value not drawn)
CONN, HEADER, Female, pitch: 2.54mm, 7POS; VALUE: HDRF7
footprint HDR_F_1X7 (HEADER FEMALE pitch: 2.54mm)
pins: 1, 2, 3, 4, 5, 6, 7

## CONN_HDR_254_F_1X8
designator J?, comment HDRF8  (value not drawn)
CONN, HEADER, Female, pitch: 2.54mm, 8POS; VALUE: HDRF8
footprint HDR_F_1X8 (HEADER FEMALE pitch: 2.54mm)
pins: 1, 2, 3, 4, 5, 6, 7, 8

## CONN_HDR_254_F_1X9
designator J?, comment HDRF9  (value not drawn)
CONN, HEADER, Female, pitch: 2.54mm, 9POS; VALUE: HDRF9
footprint HDR_F_1X9 (HEADER FEMALE pitch: 2.54mm)
pins: 1, 2, 3, 4, 5, 6, 7, 8, 9

## CONN_HDR_254_F_1X10
designator J?, comment HDRF10  (value not drawn)
CONN, HEADER, Female, pitch: 2.54mm, 10POS; VALUE: HDRF10
footprint HDR_F_1X10 (HEADER FEMALE pitch: 2.54mm)
pins: 1, 2, 3, 4, 5, 6, 7, 8, 9, 10

## CONN_HDR_254_F_2X2
designator J?, comment HDRF_2X2  (value not drawn)
CONN, HEADER, Female, pitch: 2.54mm, 4POS; MANF_P#: MANF_PART#; MANF: MANF; VALUE: HDRF_2X2
footprint HDR_F_2X2 (Connector; Header; 2x2 Position)
pins: 1, 2, 3, 4

## CONN_HDR_254_F_2X3
designator J?, comment HDRF_2X3  (value not drawn)
CONN, HEADER, Female, pitch: 2.54mm, 6POS; MANF_P#: MANF_PART#; MANF: MANF; VALUE: HDRF_2X3
footprint HDR_F_2X3 (Connector; Header; 3x2 Position)
pins: 1, 2, 3, 4, 5, 6

## CONN_HDR_254_F_2X4
designator J?, comment HDRF_2X4
CONN, HEADER, Female, pitch: 2.54mm, 8POS; MANF_P#: MANF_PART#; MANF: MANF; VALUE: HDRF_2X4
footprint HDR_F_2X4 (Connector; Header; 4x2 Position)
pins: 1, 2, 3, 4, 5, 6, 7, 8

## CONN_HDR_254_F_2X5
designator J?, comment HDRF_2X5  (value not drawn)
CONN, HEADER, Female, pitch: 2.54mm, 10POS; VALUE: HDRF_2X5
footprint HDR_F_2X5 (Connector; Header; 5x2 Position)
pins: 1, 2, 3, 4, 5, 6, 7, 8, 9, 10

## CONN_HDR_254_F_2X6
designator J?, comment HDRF_2X6  (value not drawn)
CONN, HEADER, Female, pitch: 2.54mm, 12POS; VALUE: HDRF_2X6
footprint HDR_F_2X6 (Connector; Header; 6x2 Position)
pins: 1, 2, 3, 4, 5, 6, 7, 8, 9, 10, 11, 12

## CONN_HDR_254_F_2X7
designator J?, comment HDRF_2X7  (value not drawn)
CONN, HEADER, Female, pitch: 2.54mm, 14POS; VALUE: HDRF_2X7
footprint HDR_F_2X7 (Connector; Header; 7x2 Position)
pins: 1, 2, 3, 4, 5, 6, 7, 8, 9, 10, 11, 12, 13, 14

## CONN_HDR_254_F_2X8
designator J?, comment HDRF_2X8  (value not drawn)
CONN, HEADER, Female, pitch: 2.54mm, 16POS; VALUE: HDRF_2X8
footprint HDR_F_2X8 (Connector; Header; 8x2 Position)
pins: 1, 2, 3, 4, 5, 6, 7, 8, 9, 10, 11, 12, 13, 14, 15, 16

## CONN_HDR_254_F_2X9
designator J?, comment HDRF_2X9  (value not drawn)
CONN, HEADER, Female, pitch: 2.54mm, 18POS; VALUE: HDRF_2X9
footprint HDR_F_2X9 (Connector; Header; 9x2 Position)
pins: 1, 2, 3, 4, 5, 6, 7, 8, 9, 10, 11, 12, 13, 14, 15, 16, 17, 18

## CONN_HDR_254_F_2X10
designator J?, comment HDRF_2X10  (value not drawn)
CONN, HEADER, Female, pitch: 2.54mm, 20POS; VALUE: HDRF_2X10
footprint HDR_F_2X10 (Connector; Header; 10x2 Position)
pins: 1, 2, 3, 4, 5, 6, 7, 8, 9, 10, 11, 12, 13, 14, 15, 16, 17, 18, 19, 20

## CONN_HDR_254_M_1X2
designator J?, comment HDRM2  (value not drawn)
CONN, HEADER, Male, pitch: 2.54mm, 2POS; VALUE: HDRM2
footprint HDR_M_1X2
pins: 1, 2

## CONN_HDR_254_M_1X3
designator J?, comment HDRM3  (value not drawn)
CONN, HEADER, Male, pitch: 2.54mm, 3POS; VALUE: HDRM3
footprint HDR_M_1X3
pins: 1, 2, 3

## CONN_HDR_254_M_1X4
designator J?, comment HDR1X4  (value not drawn)
CONN, HEADER, Male, pitch: 2.54mm, 4POS; VALUE: HDRM4
footprint HDR_M_1X4
pins: 1, 2, 3, 4

## CONN_HDR_254_M_1X5
designator J?, comment HDR1X5  (value not drawn)
CONN, HEADER, Male, pitch: 2.54mm, 5POS; VALUE: HDRM5
footprint HDR_M_1X5
pins: 1, 2, 3, 4, 5

## CONN_HDR_254_M_1X6
designator J?, comment HDR1X6  (value not drawn)
CONN, HEADER, Male, pitch: 2.54mm, 6POS; VALUE: HDRM6
footprint HDR_M_1X6
pins: 1, 2, 3, 4, 5, 6

## CONN_HDR_254_M_1X7
designator J?, comment HDR1X7  (value not drawn)
CONN, HEADER, Male, pitch: 2.54mm, 7POS; VALUE: HDRM7
footprint HDR_M_1X7
pins: 1, 2, 3, 4, 5, 6, 7

## CONN_HDR_254_M_1X8
designator J?, comment HDR1X8  (value not drawn)
CONN, HEADER, Male, pitch: 2.54mm, 8POS; VALUE: HDRM8
footprint HDR_M_1X8
pins: 1, 2, 3, 4, 5, 6, 7, 8

## CONN_HDR_254_M_1X9
designator J?, comment HDR1X9  (value not drawn)
CONN, HEADER, Male, pitch: 2.54mm, 9POS; VALUE: HDRM9
footprint HDR_M_1X9
pins: 1, 2, 3, 4, 5, 6, 7, 8, 9

## CONN_HDR_254_M_1X10
designator J?, comment HDR1X10  (value not drawn)
CONN, HEADER, Male, pitch: 2.54mm, 10POS; VALUE: HDRM10
footprint HDR_M_1X10
pins: 1, 2, 3, 4, 5, 6, 7, 8, 9, 10

## CONN_HDR_254_M_2X2
designator J?, comment HDRM_2X2  (value not drawn)
CONN, HEADER, Male, pitch: 2.54mm, 4POS; MANF_P#: MANF_PART#; MANF: MANF; VALUE: HDRM_2X2
footprint HDR_M_2X2 (Connector; Header; 2x2 Position)
pins: 1, 2, 3, 4

## CONN_HDR_254_M_2X3
designator J?, comment HDRM_2X3  (value not drawn)
CONN, HEADER, Male, pitch: 2.54mm, 6POS; MANF_P#: MANF_PART#; MANF: MANF; VALUE: HDRM_2X3
footprint HDR_M_2X3 (Connector; Header; 3x2 Position)
pins: 1, 2, 3, 4, 5, 6

## CONN_HDR_254_M_2X4
designator J?, comment HDRM_2X4
CONN, HEADER, Male, pitch: 2.54mm, 8POS; MANF_P#: MANF_PART#; MANF: MANF; VALUE: HDRM_2X4
footprint HDR_M_2X4 (Male Header 2X04 with 2.54 mm Pitch)
pins: 1, 2, 3, 4, 5, 6, 7, 8

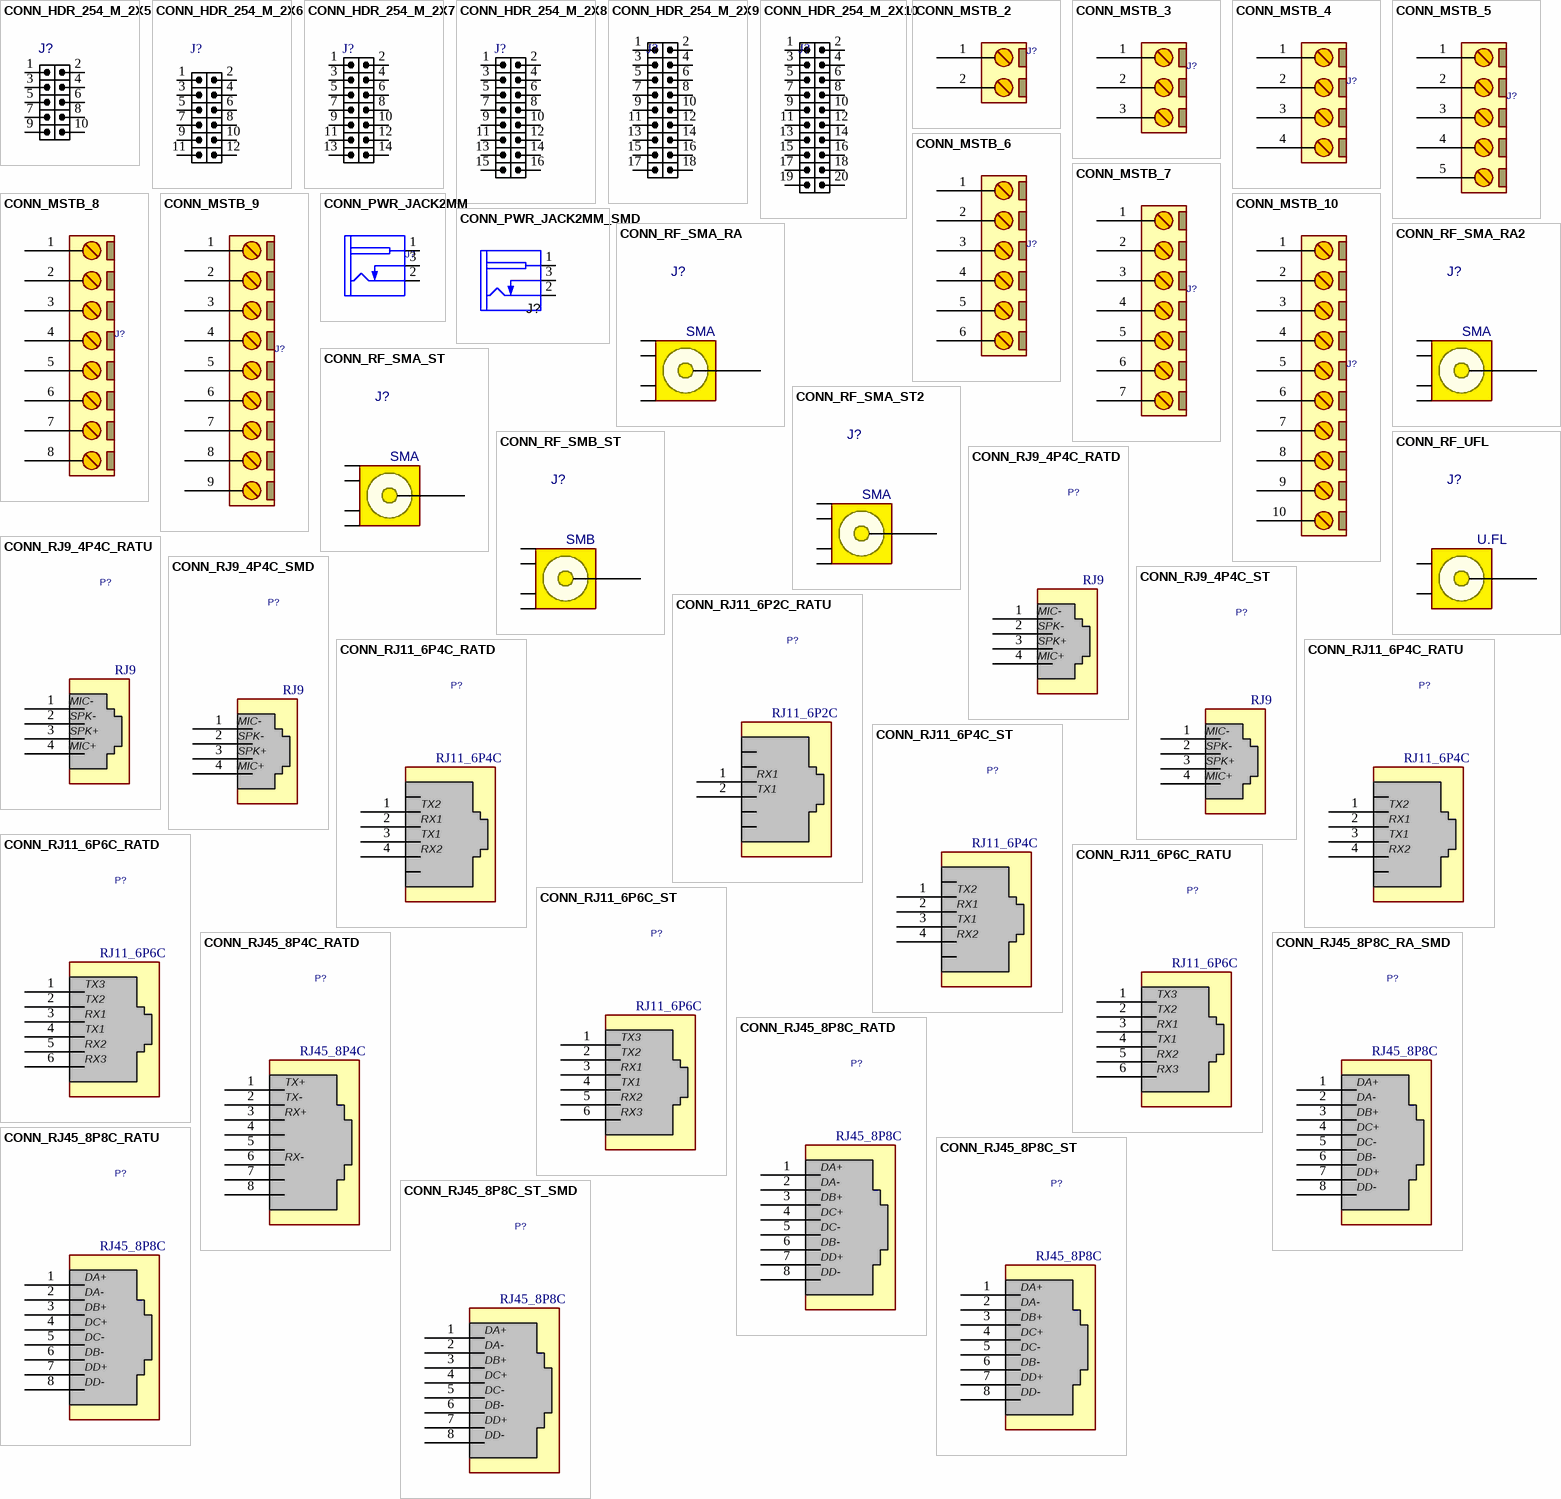
[diagram p3: symbols CONN_HDR_254_M_2X5 to CONN_RJ45_8P8C_ST_SMD]

## CONN_HDR_254_M_2X5
designator J?, comment HDRM_2X5  (value not drawn)
CONN, HEADER, Male, pitch: 2.54mm, 10POS; VALUE: HDRM_2X5
footprint HDR_M_2X5 (Male Header 2X05 with 2.54 mm Pitch)
pins: 1, 2, 3, 4, 5, 6, 7, 8, 9, 10

## CONN_HDR_254_M_2X6
designator J?, comment HDRM_2X6  (value not drawn)
CONN, HEADER, Male, pitch: 2.54mm, 12POS; VALUE: HDRM_2X6
footprint HDR_M_2X6 (Male Header 2X06 with 2.54 mm Pitch)
pins: 1, 2, 3, 4, 5, 6, 7, 8, 9, 10, 11, 12

## CONN_HDR_254_M_2X7
designator J?, comment HDRM_2X7  (value not drawn)
CONN, HEADER, Male, pitch: 2.54mm, 14POS; VALUE: HDRM_2X7
footprint HDR_M_2X7 (Male Header 2X07 with 2.54 mm Pitch)
pins: 1, 2, 3, 4, 5, 6, 7, 8, 9, 10, 11, 12, 13, 14

## CONN_HDR_254_M_2X8
designator J?, comment HDRM_2X8  (value not drawn)
CONN, HEADER, Male, pitch: 2.54mm, 16POS; VALUE: HDRM_2X8
footprint HDR_M_2X8 (Male Header 2X08 with 2.54 mm Pitch)
pins: 1, 2, 3, 4, 5, 6, 7, 8, 9, 10, 11, 12, 13, 14, 15, 16

## CONN_HDR_254_M_2X9
designator J?, comment HDRM_2X9  (value not drawn)
CONN, HEADER, Male, pitch: 2.54mm, 18POS; VALUE: HDRM_2X9
footprint HDR_M_2X9 (Male Header 2X09 with 2.54 mm Pitch)
pins: 1, 2, 3, 4, 5, 6, 7, 8, 9, 10, 11, 12, 13, 14, 15, 16, 17, 18

## CONN_HDR_254_M_2X10
designator J?, comment HDRM_2X10  (value not drawn)
CONN, HEADER, Male, pitch: 2.54mm, 20POS; VALUE: HDRM_2X10
footprint HDR_M_2X10 (Male Header 2X10 with 2.54 mm Pitch)
pins: 1, 2, 3, 4, 5, 6, 7, 8, 9, 10, 11, 12, 13, 14, 15, 16, 17, 18, 19, 20

## CONN_MSTB_2
designator J?, comment CONN_TB2  (value not drawn)
CONN, PHOENIX MSTB, 5-G, 5.08mm pitch; VALUE: CONN_TB2
footprint MSTB_2 (PHOENIX MSTB 2, 5-G, 5.08mm pitch, 2pin)
pins: 1, 2

## CONN_MSTB_3
designator J?, comment CONN_TB3  (value not drawn)
CONN, PHOENIX MSTB, 5-G, 5.08mm pitch; VALUE: CONN_TB3
footprint MSTB_3 (PHOENIX MSTB 2, 5-G, 5.08mm pitch, 3pin)
pins: 1, 2, 3

## CONN_MSTB_4
designator J?, comment CONN_TB4  (value not drawn)
CONN, PHOENIX MSTB, 5-G, 5.08mm pitch; VALUE: CONN_TB4
footprint MSTB_4 (PHOENIX MSTB 2, 5-G, 5.08mm pitch)
pins: 1, 2, 3, 4

## CONN_MSTB_5
designator J?, comment CONN_TB5  (value not drawn)
CONN, PHOENIX MSTB, 5-G, 5.08mm pitch; VALUE: CONN_TB5
footprint MSTB_5 (PHOENIX MSTB 2, 5-G, 5.08mm pitch)
pins: 1, 2, 3, 4, 5

## CONN_MSTB_6
designator J?, comment CONN_TB6  (value not drawn)
CONN, PHOENIX MSTB, 5-G, 5.08mm pitch; VALUE: CONN_TB6
footprint MSTB_6 (PHOENIX MSTB 2, 5-G, 5.08mm pitch)
pins: 1, 2, 3, 4, 5, 6

## CONN_MSTB_7
designator J?, comment CONN_TB7  (value not drawn)
CONN, PHOENIX MSTB, 5-G, 5.08mm pitch; VALUE: CONN_TB7
footprint MSTB_7 (PHOENIX MSTB 2, 5-G, 5.08mm pitch)
pins: 1, 2, 3, 4, 5, 6, 7

## CONN_MSTB_8
designator J?, comment CONN_TB8  (value not drawn)
CONN, PHOENIX MSTB, 5-G, 5.08mm pitch; VALUE: CONN_TB8
footprint MSTB_8 (PHOENIX MSTB 2, 5-G, 5.08mm pitch)
pins: 1, 2, 3, 4, 5, 6, 7, 8

## CONN_MSTB_9
designator J?, comment CONN_TB9  (value not drawn)
CONN, PHOENIX MSTB, 5-G, 5.08mm pitch; VALUE: CONN_TB9
footprint MSTB_9 (PHOENIX MSTB 2, 5-G, 5.08mm pitch)
pins: 1, 2, 3, 4, 5, 6, 7, 8, 9

## CONN_MSTB_10
designator J?, comment CONN_TB10  (value not drawn)
CONN, PHOENIX MSTB, 5-G, 5.08mm pitch; VALUE: CONN_TB10
footprint MSTB_10 (PHOENIX MSTB 2, 5-G, 5.08mm pitch)
pins: 1, 2, 3, 4, 5, 6, 7, 8, 9, 10

## CONN_PWR_JACK2MM
designator J?, comment DC_POWER_JACK  (value not drawn)
CONN, PWR JACK DC, PLUG DIAM 2.0MM RA THD; MANF: CUI STACK; MANF_P#: PJ-202A, PJ-002AH, PJ-102AH, KLDX-0202; VALUE: DC_POWER_JACK
footprint JAC_PWR2MM (Power Jack KLDX-0202)
pins: 1 TIP (power), 2 SLEEVE (power), 3 INSERTION_DET (power)

## CONN_PWR_JACK2MM_SMD
designator J?, comment PWR_JACK  (value not drawn)
CONN, PWR JACK, SMD  2.0mm x 6.3mm; MANF: CUI Inc; MANF_P#: PJ-036A-SMT; VALUE: PWR_JACK
footprint JAC_PWR2MM_SMD (CUI PJ-036A-SMT)
pins: 1 TIP (power), 2 SLEEVE (power), 3 INSERTION_DET (power)

## CONN_RF_SMA_RA
designator J?, comment SMA
CONN, RF, SMA, Right Angle; MANF_P#: SMA-J-P-H-RA-TH1; MANF: Samtec; PARAM: 50Ohm, 20GHz; DESC: DESCRIPTION; DIST#: DIGIKEY; PARAM2: GOLD; ASSEMBLY: ASSEMBLY; PRICE: 6.3$; VALUE: SMA
footprint SMA_RA (CONN, RF, COAX, SMA, RIGHT ANGLE THD)
pins: 1 SIG, 2 G1, 3 G2, 4 G3, 5 G4

## CONN_RF_SMA_RA2
designator J?, comment SMA
CONN, RF, SMA, Right Angle; MANF_P#: SMA-J-P-XX-RA-MT1; MANF: Samtec; PARAM: 50Ohm, 20GHz; DESC: DESCRIPTION; DIST#: DIGIKEY; PARAM2: GOLD; ASSEMBLY: ASSEMBLY; PRICE: 6.3$; VALUE: SMA
footprint SMA_RA2 (CONN, RF, COAX, SMA, RIGHT ANGLE, SMA-J-P-XX-RA-MT1smt pin with 4 tht pin ground)
pins: 1 SIG, 2 G1, 3 G2, 4 G3, 5 G4

## CONN_RF_SMA_ST
designator J?, comment SMA
CONN, RF, SMA, STRAIGHT; MANF_P#: 142-0701-201; MANF: Johnson; PARAM: 50Ohm, 18GHz; DESC: DESCRIPTION; DIST#: MOUSER; PARAM2: GOLD; ASSEMBLY: ASSEMBLY; PRICE: 2.7$; VALUE: SMA
footprint SMA_ST
pins: 1 SIG, 2 G1, 3 G2, 4 G3, 5 G4

## CONN_RF_SMA_ST2
designator J?, comment SMA
CONN, RF, SMA, STRAIGHT, smt pin with 4 tht pin ground; MANF_P#: SMA-J-P-X-ST-MT1; MANF: Samtec; PARAM: 50Ohm, 20GHz; DESC: DESCRIPTION; DIST#: DIGIKEY; PARAM2: GOLD; ASSEMBLY: ASSEMBLY; PRICE: 7$; VALUE: SMA
footprint SMA_ST2 (SMA-J-P-X-ST-MT1 straight smt pin with 4 tht pin ground)
pins: 1 SIG, 2 G1, 3 G2, 4 G3, 5 G4

## CONN_RF_SMB_ST
designator J?, comment SMB
CONN, RF, SMB, STRAIGHT; PARAM: 50Ohm, 18GHz; DESC: DESCRIPTION; DIST#: MOUSER; PARAM2: GOLD; MANF_P#: -; MANF: -; ASSEMBLY: ASSEMBLY; PRICE: -; VALUE: SMB
footprint SMB_ST (High Frequency SMB Connector)
pins: 1 SIG, 2 G1, 3 G2, 4 G3, 5 G4

## CONN_RF_UFL
designator J?, comment U.FL
CONN, RF, U.FL, STRAIGHT, Ultra Miniature Coaxial; MANF_P#: CONUFL001-SMD, U.FL-R-SMT-1(10), 128-0711-201; MANF: Linx, Hirose, Cinch; PARAM: 50Ohm, 6GHz; DESC: DESCRIPTION; DIST#: DIGIKEY, MOUSER; PARAM2: GOLD; ASSEMBLY: ASSEMBLY; PRICE: 0.9$; VALUE: U.FL
footprint UFL (CONN RF, COAX UP, U.FL-R-SMT-1 2.8x2.8mm)
pins: 1 SIG, 2 G1, 3 G2

## CONN_RJ9_4P4C_RATD
designator P?, comment RJ9
RJ9, RJ11, 4P4C, RightAngle, TabDown; MANF: MOLEX; MANF_P#: 0950097441; PARAM2: Handset pinout; PRICE: 1.2$; VALUE: RJ9
footprint RJ11_4P4C_RA_TD (RJ11 4P4C, RightAngle, TabDown)
pins: 1 MIC-, 2 SPK-, 3 SPK+, 4 MIC+

## CONN_RJ9_4P4C_RATU
designator P?, comment RJ9
RJ9, RJ11, 4P4C, RightAngle, Tab Up,; MANF: WURTH, MOLEX; MANF_P#: 615004143821, 0520184446; PARAM2: Handset pinout; PRICE: 1.2$; VALUE: RJ9
footprint RJ11_4P4C_RA_TU (RJ11 4P4C, RightAngle, TabUp)
pins: 1 MIC-, 2 SPK-, 3 SPK+, 4 MIC+

## CONN_RJ9_4P4C_SMD
designator P?, comment RJ9
RJ9, RJ11, 4P4C, RightAngle, Tab Up,; MANF: WURTH; MANF_P#: 634104149621; PARAM2: Handset pinout; PRICE: 1.2$; VALUE: RJ9
footprint RJ11_4P4C_SMD (RJ11 4P4C, Tab Up, Straight, Top Entry_4P4C T&R with Mylar for Pick & Place)
pins: 1 MIC-, 2 SPK-, 3 SPK+, 4 MIC+

## CONN_RJ9_4P4C_ST
designator P?, comment RJ9
RJ9, RJ11, 4P4C, Straight; MANF: WURTH, MOLEX; MANF_P#: 615004144021, 0955036451; PARAM2: Handset pinout; PRICE: 1.2$; VALUE: RJ9
footprint RJ11_4P4C_ST (RJ11 4P4C, Tab Up, Straight, WURTH 615004144021)
pins: 1 MIC-, 2 SPK-, 3 SPK+, 4 MIC+

## CONN_RJ11_6P2C_RATU
designator P?, comment RJ11_6P2C
RJ11, 6P2C, RightAngle, Tab Up; MANF: WURTH; MANF_P#: 615002138421; PRICE: 1.2$; VALUE: RJ11_6P2C
footprint RJ11_6P2C_RA_TU (RJ11, 6P2C, RightAngle TabUp, WURTH 615002138421)
pins: 1 RX1, 2 TX1

## CONN_RJ11_6P4C_RATD
designator P?, comment RJ11_6P4C
RJ11, RJ14, 6P4C, RightAngle, TabDown; MANF: WURTH; MANF_P#: 615004141121; PRICE: 1.2$; VALUE: RJ11_6P4C
footprint RJ11_6P4C_RA_TD (RJ11 6P4C, RightAngle, TabDown, WURTH 615004141121)
pins: 1 TX2, 2 RX1, 3 TX1, 4 TX3
text: RX2

## CONN_RJ11_6P4C_RATU
designator P?, comment RJ11_6P4C
RJ11, RJ14, 6P4C, RightAngle, Tab Up; MANF: WURTH; MANF_P#: 615004138421; PRICE: 1.2$; VALUE: RJ11_6P4C
footprint RJ11_6P4C_RA_TU (RJ11, 6P4C, RightAngle TabUp, WURTH 615004138421)
pins: 1 TX2, 2 RX1, 3 TX1, 4 TX3
text: RX2

## CONN_RJ11_6P4C_ST
designator P?, comment RJ11_6P4C
RJ11, RJ14, 6P4C, Straight, TOP Entry; MANF: WURTH; MANF_P#: 615004144121,; PRICE: 1.2$; VALUE: RJ11_6P4C
footprint RJ11_6P4C_ST (RJ11, 6P4C, Straight, WURTH 615004144121)
pins: 1 TX2, 2 RX1, 3 TX1, 4 TX3
text: RX2

## CONN_RJ11_6P6C_RATD
designator P?, comment RJ11_6P6C
RJ11, RJ25, 6P6C, RightAngle, TabDown; MANF: WURTH; MANF_P#: 615004141121, 615006143621; PRICE: 1.2$; VALUE: RJ11_6P6C
footprint RJ11_6P6C_RA_TD (RJ11 6P6C, RightAngle, TabDown, WURTH 615004141121)
pins: 1 TX3, 2 TX2, 3 RX1, 4 TX1, 5 RX2, 6 RX3

## CONN_RJ11_6P6C_RATU
designator P?, comment RJ11_6P6C
RJ11, RJ25, 6P6C, RightAngle, Tab Up; MANF: WURTH; MANF_P#: 615006138421; PRICE: 1.2$; VALUE: RJ11_6P6C
footprint RJ11_6P6C_RA_TU (RJ11, 6P6C, RightAngle TabUp, WURTH 615006138421)
pins: 1 TX3, 2 TX2, 3 RX1, 4 TX1, 5 RX2, 6 RX3

## CONN_RJ11_6P6C_ST
designator P?, comment RJ11_6P6C
RJ11, RJ25, 6P6C, Straight, TOP Entry; MANF: WURTH; MANF_P#: 615006144121, 615006138521; PRICE: 1.2$; VALUE: RJ11_6P6C
footprint RJ11_6P6C_ST (RJ11, 6P6C, Straight, WURTH 615006144121)
pins: 1 TX3, 2 TX2, 3 RX1, 4 TX1, 5 RX2, 6 RX3

## CONN_RJ45_8P4C_RATD
designator P?, comment RJ45_8P4C
RJ45, 8P4C, RightAngle, Tab Down; MANF: WURTH; MANF_P#: 615008137121, 615008143721; PARAM2: 10/100BASE; PRICE: 1.2$; VALUE: RJ45_8P4C
footprint RJ45_8_RA_TD (RJ11 6P6C, RightAngle, TabDown, WURTH 615008137121)
pins: 1 TX+, 2 TX-, 3 RX+, 4 NC, 5 NC, 6 RX-, 7 NC, 8 NC

## CONN_RJ45_8P8C_RA_SMD
designator P?, comment RJ45_8P8C
RJ45, 8P8C, RightAngle, Tab Down SMD; MANF: WURTH; MANF_P#: 634008137221, 634108149921; PRICE: 1.2$; VALUE: RJ45_8P8C
footprint RJ45_8_RA_SMD (RJ45 8P8C, RightAngle, TabDown SMD, WURTH 634008137221)
pins: 1 DA+, 2 DA-, 3 DB+, 4 DC+, 5 DC-, 6 DB-, 7 DD+, 8 DD-

## CONN_RJ45_8P8C_RATD
designator P?, comment RJ45_8P8C
RJ45, 8P8C, RightAngle, Tab Down; MANF: WURTH; MANF_P#: 615008137121, 615008143721; PRICE: 1.2$; VALUE: RJ45_8P8C
footprint RJ45_8_RA_TD (RJ11 6P6C, RightAngle, TabDown, WURTH 615008137121)
pins: 1 DA+, 2 DA-, 3 DB+, 4 DC+, 5 DC-, 6 DB-, 7 DD+, 8 DD-

## CONN_RJ45_8P8C_RATU
designator P?, comment RJ45_8P8C
RJ45, 8P8C, RightAngle, TabUp; MANF: WURTH; MANF_P#: 615008148521; PRICE: 1.2$; VALUE: RJ45_8P8C
footprint RJ45_8_RA_TU (RJ45 8P8C, RightAngle, TabUp, WURTH 615008148521)
pins: 1 DA+, 2 DA-, 3 DB+, 4 DC+, 5 DC-, 6 DB-, 7 DD+, 8 DD-

## CONN_RJ45_8P8C_ST
designator P?, comment RJ45_8P8C
RJ45, 8P8C, Straight, TOP Entry; MANF: WURTH; MANF_P#: 615008138021, 615008144221; PRICE: 1.2$; VALUE: RJ45_8P8C
footprint RJ45_8_ST (RJ45 8P8C, Straight, WURTH  615008138021)
pins: 1 DA+, 2 DA-, 3 DB+, 4 DC+, 5 DC-, 6 DB-, 7 DD+, 8 DD-

## CONN_RJ45_8P8C_ST_SMD
designator P?, comment RJ45_8P8C
RJ45, 8P8C, Straight, SMD; MANF: WURTH; MANF_P#: 634008138121; PRICE: 1.2$; VALUE: RJ45_8P8C
footprint RJ45_8_ST_SMD (RJ45 8P8C, Straight SMD, WURTH 634008138121)
pins: 1 DA+, 2 DA-, 3 DB+, 4 DC+, 5 DC-, 6 DB-, 7 DD+, 8 DD-

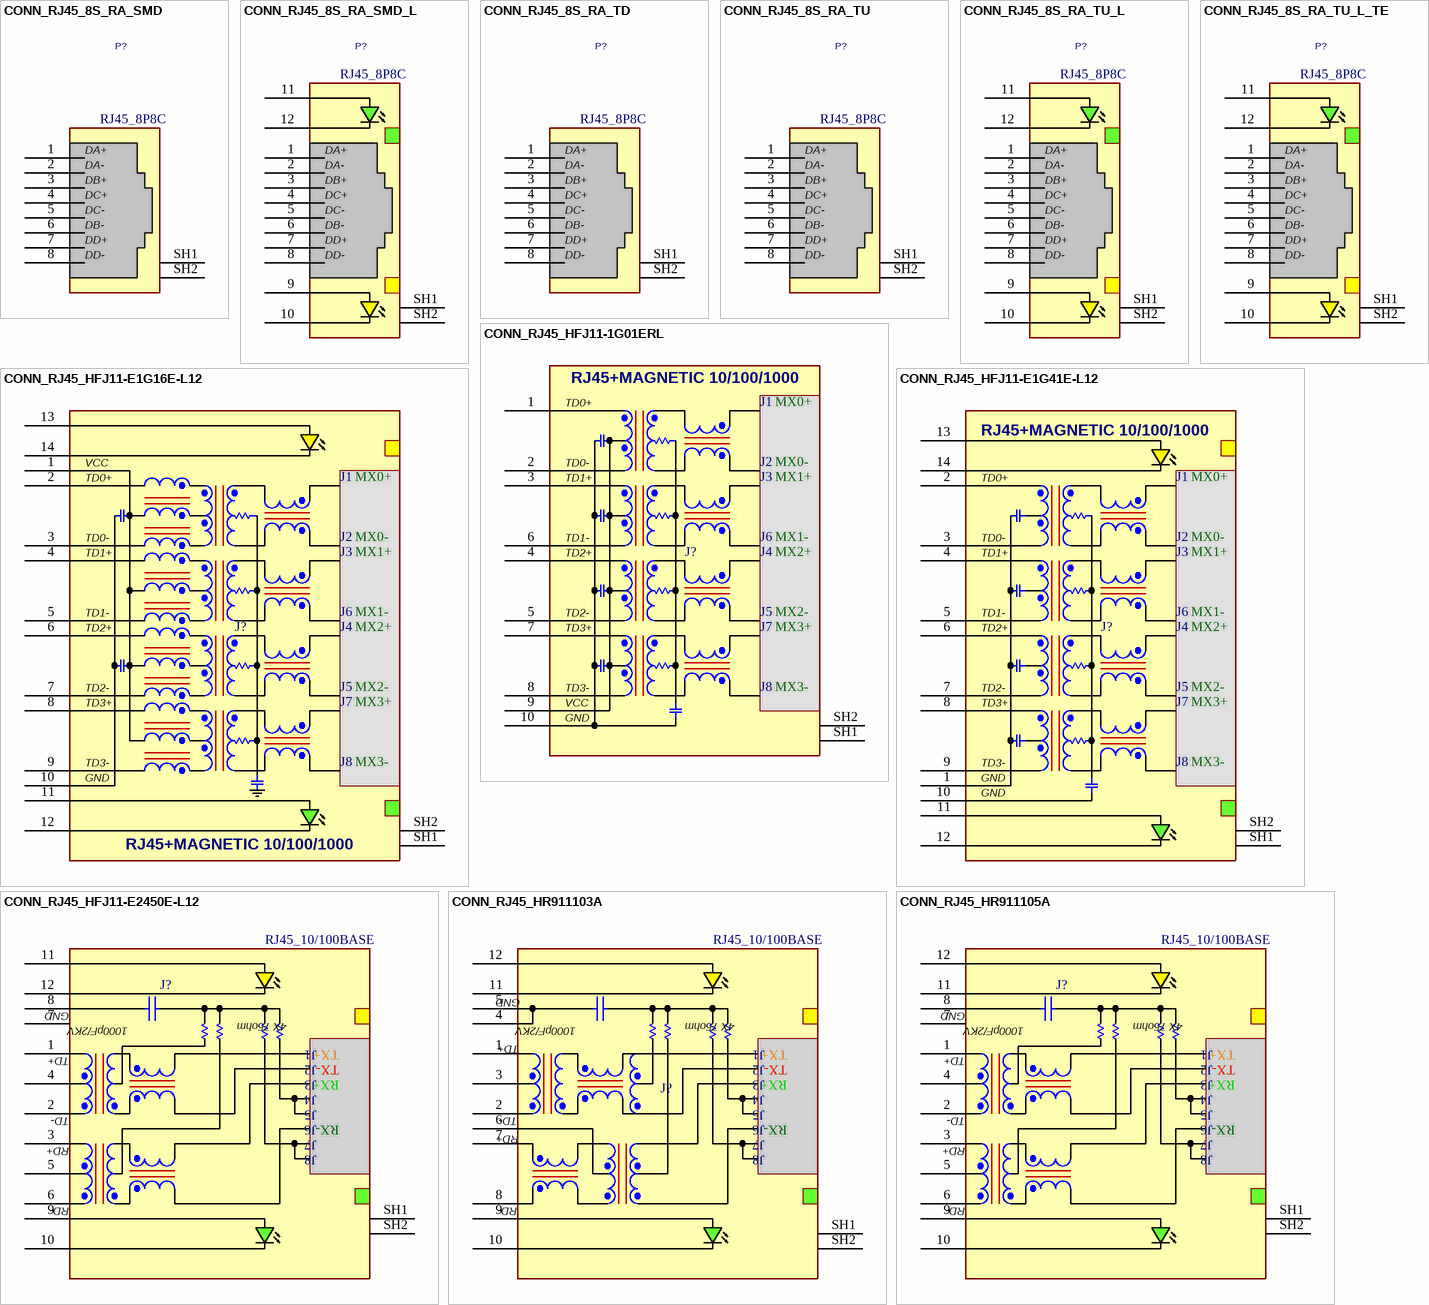
[diagram p4: symbols CONN_RJ45_8S_RA_SMD to CONN_RJ45_HR911105A]

## CONN_RJ45_8S_RA_SMD
designator P?, comment RJ45_8P8C
RJ45, 8P, SHIELDED, RightAngle, TabUp, SMDEMI panel ground; MANF: WURTH; MANF_P#: 634008149721; PRICE: 1.2$; VALUE: RJ45_8P8C
footprint RJ45_8S_RA_SMD (RJ45, 8P8C, RightAngle, Tabup, SMD, WURTH 634008149721)
pins: 1 DA+, 2 DA-, 3 DB+, 4 DC+, 5 DC-, 6 DB-, 7 DD+, 8 DD-, SH1, SH2

## CONN_RJ45_8S_RA_SMD_L
designator P?, comment RJ45_8P8C
RJ45, 8P, SHIELDED, RightAngle, TabUp, SMDEMI panel ground; MANF: WURTH; MANF_P#: 634008149721; PARAM2: SHIELDED, RightAngle, TabUp, SMDEMI panel ground; PRICE: 1.2$; VALUE: RJ45_8P8C
footprint RJ45_8S_RA_SMD_L (RJ45, 8P+G/Y-LED, RightAngle, TabUp, SMD, WURTH 634008137521)
pins: 1 DA+, 2 DA-, 3 DB+, 4 DC+, 5 DC-, 6 DB-, 7 DD+, 8 DD-, 9 YLED+, 10 YLED-, 11 GLED+, 12 GLED-, SH1, SH2

## CONN_RJ45_8S_RA_TD
designator P?, comment RJ45_8P8C
RJ45, 8P, SHIELDED, RightAngle, TabDown; MANF: WURTH; MANF_P#: 615008142621; PRICE: 1.2$; VALUE: RJ45_8P8C
footprint RJ45_8S_RA_TD (RJ45, 8P, SHIELDED, RightAngle, TabDown, WURTH 615008142621)
pins: 1 DA+, 2 DA-, 3 DB+, 4 DC+, 5 DC-, 6 DB-, 7 DD+, 8 DD-, SH1, SH2

## CONN_RJ45_8S_RA_TU
designator P?, comment RJ45_8P8C
RJ45, 8P, SHIELDED, RightAngle, TabUP; MANF: WURTH; MANF_P#: 615008140621; PRICE: 1.2$; VALUE: RJ45_8P8C
footprint RJ45_8S_RA_TU (RJ45, 8P, SHIELDED, RightAngle, TabUP, WURTH 615008140621)
pins: 1 DA+, 2 DA-, 3 DB+, 4 DC+, 5 DC-, 6 DB-, 7 DD+, 8 DD-, SH1, SH2

## CONN_RJ45_8S_RA_TU_L
designator P?, comment RJ45_8P8C
RJ45, 8P+LED, SHIELDED, RightAngle, TabUP; MANF: WURTH; MANF_P#: 615008137421; PRICE: 1.2$; VALUE: RJ45_8P8C
footprint RJ45_8S_RA_TU_L (RJ45, 8P+LED, SHIELDED, RightAngle, TabUP, WURTH 615008137421)
pins: 1 DA+, 2 DA-, 3 DB+, 4 DC+, 5 DC-, 6 DB-, 7 DD+, 8 DD-, 9 YLED+, 10 YLED-, 11 GLED+, 12 GLED-, SH1, SH2

## CONN_RJ45_8S_RA_TU_L_TE
designator P?, comment RJ45_8P8C
RJ45, 8P+LED, SHIELDED, RightAngle, TabUP; MANF: TE; MANF_P#: 6116075-4; PARAM: 8P+LED, SHIELDED, -40~85 °C; PARAM2: RightAngle, TabUP; PRICE: 1.2$; VALUE: RJ45_8P8C
footprint RJ45_8S_RA_TU_L (RJ45, 8P+LED, SHIELDED, RightAngle, TabUP, WURTH 615008137421)
pins: 1 DA+, 2 DA-, 3 DB+, 4 DC+, 5 DC-, 6 DB-, 7 DD+, 8 DD-, 9 YLED+, 10 YLED-, 11 GLED+, 12 GLED-, SH1, SH2

## CONN_RJ45_HFJ11-1G01ERL
designator J?, comment RJ45_10/100/1000  (value not drawn)
RJ45, 10/100/1000, with Magnetic; MANF: HALO; MANF_P#: HFJ11-1G01ERL; PARAM2: 10/100/1000, with Magnetic; PRICE: 15$; VALUE: RJ45_10/100/1000
footprint RJ45_10M_HFJ11_1G (RJ45_HFJ11_1G01E (HALO Ethernet Gigabit FASTJACK))
pins: 1 TD0+, 2 TD0-, 3 TD1+, 4 TD2+, 5 TD2-, 6 TD1-, 7 TD3+, 8 TD3-, 9 VCC, 10 GND, SH1, SH2
text: RJ45+MAGNETIC 10/100/1000; J1; MX0+; J2; MX0-; J3; MX1+; J6; MX1-; J4; MX2+; J5; MX2-; J7; MX3+; J8; MX3-

## CONN_RJ45_HFJ11-E1G16E-L12
designator J?, comment RJ45_10/100/1000  (value not drawn)
RJ45, 10/100/1000, with Magnetic, G/Y LED; MANF: HALO; MANF_P#: HFJ11-E1G16E-L12RL; PARAM: -40~85oC; PARAM2: 10/100/1000, with Magnetic, G/Y LED; PRICE: 20$; VALUE: RJ45_10/100/1000
footprint RJ45_10M_HFJ11_1G_L (RJ45_HFJ11 (HALO Ethernet Gigabit FASTJACK) WITH LED)
pins: 1 VCC, 2 TD0+, 3 TD0-, 4 TD1+, 5 TD1-, 6 TD2+, 7 TD2-, 8 TD3+, 9 TD3-, 10 CHSGND, 11 GLED+, 12 GLED-, 13 YLED+, 14 YLED-, SH1, SH2
text: J1; MX0+; J2; MX0-; J3; MX1+; J6; MX1-; J4; MX2+; J5; MX2-; J7; MX3+; J8; MX3-; GND; RJ45+MAGNETIC 10/100/1000

## CONN_RJ45_HFJ11-E1G41E-L12
designator J?, comment RJ45_10/100/1000  (value not drawn)
RJ45, 10/100/1000, with Magnetic, G/Y LED; MANF: HALO; MANF_P#: HFJ11-E1G41E-L12RL; PARAM: -40~85oC; PARAM2: 10/100/1000, with Magnetic, G/Y LED; PRICE: 20$; VALUE: RJ45_10/100/1000
footprint RJ45_10M_HFJ11_1G_L (RJ45_HFJ11 (HALO Ethernet Gigabit FASTJACK) WITH LED)
pins: 1 GND, 2 TD0+, 3 TD0-, 4 TD1+, 5 TD1-, 6 TD2+, 7 TD2-, 8 TD3+, 9 TD3-, 10 CHSGND, 11 GLED+, 12 GLED-, 13 YLED+, 14 YLED-, SH1, SH2
text: RJ45+MAGNETIC 10/100/1000; J1; MX0+; J2; MX0-; J3; MX1+; J6; MX1-; J4; MX2+; J5; MX2-; J7; MX3+; J8; MX3-

## CONN_RJ45_HFJ11-E2450E-L12
designator J?, comment RJ45_10/100BASE
RJ45, 10/100BASE, G/Y LED; MANF: HALO; MANF_P#: HFJ11-E2450E-L12RL; PARAM: 0~70oC; PARAM2: 10/100BASE, G/Y LED; VALUE: RJ45_10/100BASE
footprint RJ45_8M_RA_TD_LI (Ethernet FASTJACK MAGJACK with LED INLINE)
pins: 1 TD+, 2 TD-, 3 RD+, 4 TCT, 5 RCT, 6 RD-, 7 NC, 8 CHSGND, 9 GLED+, 10 GLED-, 11 YLED+, 12 YLED-, SH1, SH2
text: GND; 4X 75ohm; 1000pF/2KV; J1; TX+; J2; TX-; J3; RX+; J4; J5; J6; RX-; J7; J8

## CONN_RJ45_HR911103A
designator J?, comment RJ45_10/100BASE
RJ45, 10/100BASE, G/Y LED; MANF: Hanrun; MANF_P#: HR911103A; PARAM2: 10/100BASE, G/Y LED; VALUE: RJ45_10/100BASE
footprint RJ45_8M_HR911103A (RJ45, 10/100BASE, HR911103A WITH G/Y LED)
pins: 1 TD+, 2 TD-, 3 TCT, 4, 5 CHSGND, 6 RCT, 7 RD+, 8 RD-, 9 GLED+, 10 GLED-, 11 YLED-, 12 YLED+, SH1, SH2
text: GND; 4X 75ohm; 1000pF/2KV; J1; TX+; J2; TX-; J3; RX+; J4; J5; J6; RX-; J7; J8

## CONN_RJ45_HR911105A
designator J?, comment RJ45_10/100BASE
RJ45, 10/100BASE, G/Y LED; MANF: Hanrun; MANF_P#: HR911105A; PARAM2: 10/100BASE, G/Y LED; VALUE: RJ45_10/100BASE
footprint RJ45_8M_HR911105A (RJ45, 10/100BASE, HR911105A WITH G/Y LED)
pins: 1 TD+, 2 TD-, 3 RD+, 4 TCT, 5 RCT, 6 RD-, 7 NC, 8 CHSGND, 9 GLED+, 10 GLED-, 11 YLED-, 12 YLED+, SH1, SH2
text: GND; 4X 75ohm; 1000pF/2KV; J1; TX+; J2; TX-; J3; RX+; J4; J5; J6; RX-; J7; J8

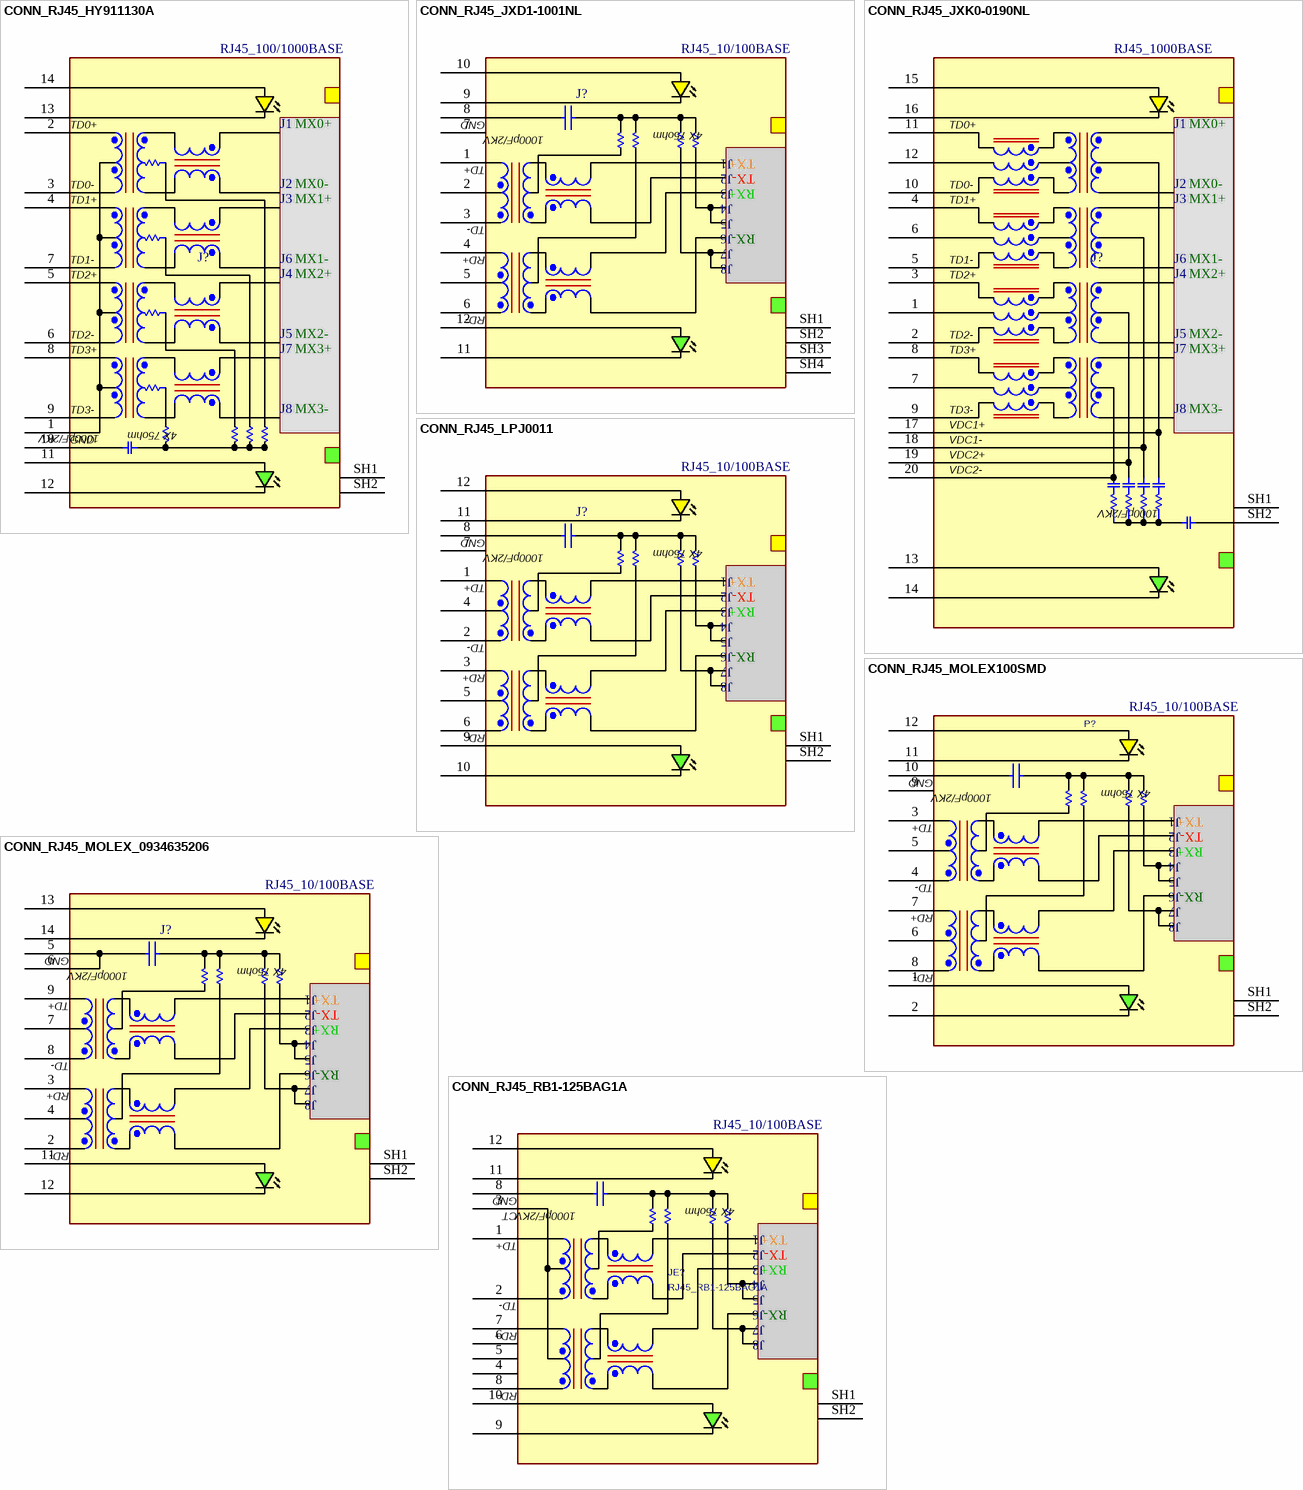
[diagram p5: symbols CONN_RJ45_HY911130A to CONN_RJ45_RB1-125BAG1A]

## CONN_RJ45_HY911130A
designator J?, comment RJ45_100/1000BASE
RJ45, 100/1000BASE, G/Y LED; MANF: Hanrun, LINK-PP; MANF_P#: HY911130A, HR911130A, LPJG0806FBNL; PARAM: 0~70oC; PARAM2: 100/1000BASE, G/Y LED; VALUE: RJ45_100/1000BASE
footprint RJ45_10M_HR911130A (RJ45, 1000BASE, HR911130A WITH G/Y LED)
pins: 1 P1, 2 TD0+, 3 TD0-, 4 TD1+, 5 TD2+, 6 TD2-, 7 TD1-, 8 TD3+, 9 TD3-, 10 GND, 11 GLED+, 12 GLED-, 13 YLED-, 14 YLED+, SH1, SH2
text: J1; MX0+; J2; MX0-; J3; MX1+; J6; MX1-; J4; MX2+; J5; MX2-; J7; MX3+; J8; MX3-; 4X 75ohm; 1000pF/2KV

## CONN_RJ45_JXD1-1001NL
designator J?, comment RJ45_10/100BASE
RJ45, 10/100BASE, G/Y LED; MANF: PULSE; MANF_P#: JXD1-1001NL; PARAM: -40~85oC; PARAM2: 10/100BASE, G/Y LED; PRICE: 6$; VALUE: RJ45_10/100BASE
footprint RJ45_8M_RA_JXD1 (Ethernet 10/100 JXD1-1001NL)
pins: 1 TD+, 2 TCT, 3 TD-, 4 RD+, 5 RCT, 6 RD-, 7 NC, 8 CHSGND, 9 YLED-, 10 YLED+, 11 GLED-, 12 GLED+, SH1, SH2, SH3, SH4
text: GND; 4X 75ohm; 1000pF/2KV; J1; TX+; J2; TX-; J3; RX+; J4; J5; J6; RX-; J7; J8